# Altium schematic symbol library csy.SchLib: 117 symbols
Pins are listed as number, name and electrical type; pins without a type are passive.

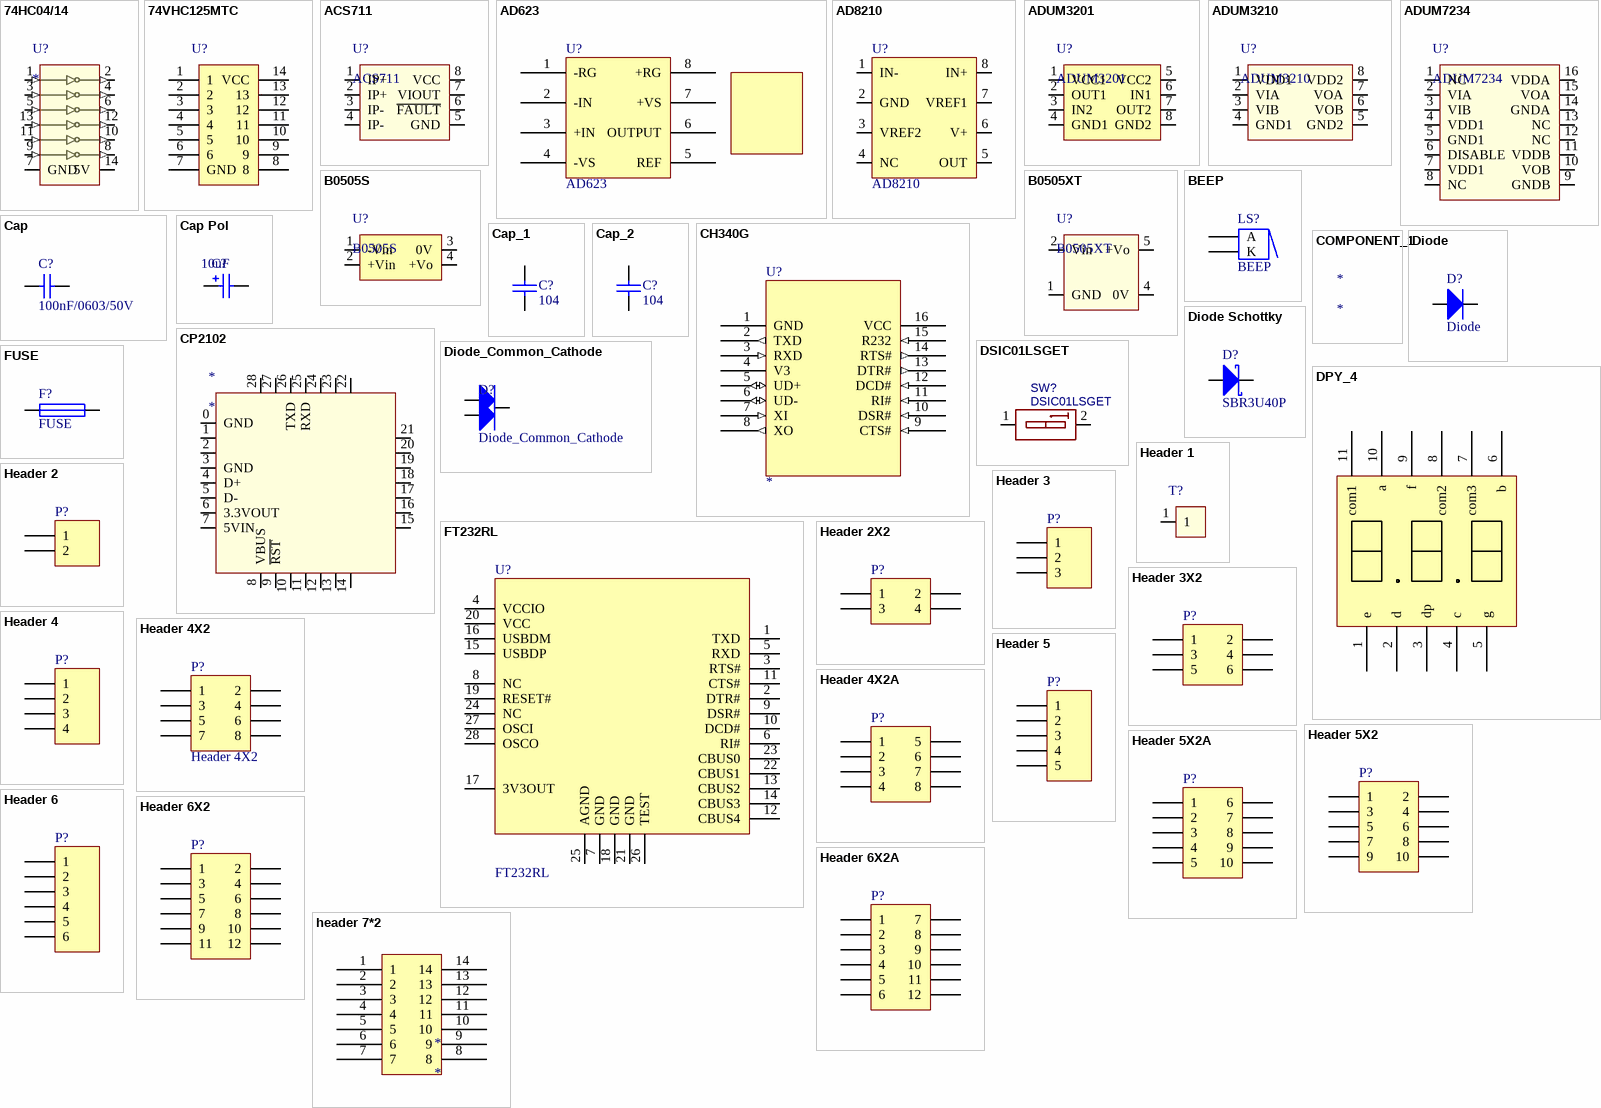
[diagram p0: symbols 74HC04/14 to header 7*2]

## 74HC04/14
designator U?
pins: 1 (in), 2 (out), 3 (in), 4 (out), 5 (in), 6 (out), 7 GND (power), 8 (out), 9 (in), 10 (out), 11 (in), 12 (out), 13 (in), 14 5V (power)

## 74VHC125MTC
designator U?
pins: 1, 2, 3, 4, 5, 6, 7 GND, 8, 9, 10, 11, 12, 13, 14 VCC

## ACS711
designator U?
footprint SOP_8
pins: 1 IP+ (hiz), 2 IP+ (hiz), 3 IP- (hiz), 4 IP- (hiz), 5 GND (power), 6 ~{FAULT} (hiz), 7 VIOUT (hiz), 8 VCC (hiz)

## AD623
designator U?
Instrumentation Amplifier
footprint SOP_8
pins: 1 -RG, 2 -IN, 3 +IN, 4 -VS, 5 REF, 6 OUTPUT, 7 +VS, 8 +RG

## AD8210
designator U?
Current shunt Monitor
footprint SOP_8
pins: 1 IN-, 2 GND, 3 VREF2, 4 NC, 5 OUT, 6 V+, 7 VREF1, 8 IN+

## ADUM3201
designator U?
footprint SOP_8
pins: 1 VCC1, 2 OUT1, 3 IN2, 4 GND1, 5 VCC2, 6 IN1, 7 OUT2, 8 GND2

## ADUM3210
designator U?
footprint SOIC_8
pins: 1 VDD1 (hiz), 2 VIA (hiz), 3 VIB (hiz), 4 GND1 (hiz), 5 GND2 (hiz), 6 VOB (hiz), 7 VOA (hiz), 8 VDD2 (hiz)

## ADUM7234
designator U?
footprint SOIC_16
pins: 1 NC (oc), 2 VIA (oc), 3 VIB (oc), 4 VDD1 (oc), 5 GND1 (oc), 6 DISABLE (oc), 7 VDD1 (oc), 8 NC (oc), 9 GNDB (oc), 10 VOB (oc), 11 VDDB (oc), 12 NC (oc), 13 NC (oc), 14 GNDA (oc), 15 VOA (oc), 16 VDDA (oc)

## B0505S
designator U?
footprint B0505S
pins: 1 -Vin, 2 +Vin, 3 0V, 4 +Vo

## B0505XT
designator U?
footprint B0505XT
pins: 1  GND (hiz), 2 Vin (hiz), 4 0V (hiz), 5 +Vo (hiz)

## BEEP
designator LS?
Magnetic Transducer Buzzer; Published: 24-Mar-1999; LatestRevisionDate: 17-Dec-2003; LatestRevisionNote: Schematic revised, PCB Footprint replaced.; DatasheetVersion: 17-Dec-2003; PackageReference: ABSM-1574; Publisher: Altium Limited; PackageDescription: Magnetic Transducer Buzzer; ComponentLink1Description: Manufacturer Link; ComponentLink1URL: http://www.megastar.com/linecard/buzzmode/index.php
footprint BP_9055
footprint BP_12095
pins: 1 A, 2 K
1 alternate drawing of the same symbol

## Cap
designator C?, comment 100nF/0603/50V
Capacitor; Published: 8-Jun-2000; LatestRevisionDate: 17-Jul-2002; LatestRevisionNote: Re-released for DXP Platform.; PackageReference: RAD-0.3; Publisher: Altium Limited; PackageDescription: Radial Cap, Thru-Hole; 2 Leads; 0.3 in Pin Spacing
simulation model CAP (Capacitor)
signal-integrity model Cap
footprint C_0805
footprint C_0402 (1005)
footprint C_0603 (1608)
footprint C_1206 (3216)
footprint C_1210
pins: 1, 2

## Cap Pol
designator C?, comment 10uF
Polarized Capacitor (Radial); Published: 8-Jun-2000; LatestRevisionDate: 17-Jul-2002; LatestRevisionNote: Re-released for DXP Platform.; PackageReference: RB7.6-15; Publisher: Altium Limited
simulation model CAP (Capacitor)
signal-integrity model Cap Pol
footprint C_A3216
footprint C_B3528 (B型)
footprint C_C6032
footprint C_D7343 (D型)
footprint C_V7361 (D型)
footprint CAP_1016 (RB.2/.4)
footprint CAP_0812
pins: 1 A, 2 K
1 alternate drawing of the same symbol

## Cap_1
designator C?, comment 104
Capacitor; Published: 8-Jun-2000; LatestRevisionDate: 17-Jul-2002; LatestRevisionNote: Re-released for DXP Platform.; PackageReference: RAD-0.3; Publisher: Altium Limited; PackageDescription: Radial Cap, Thru-Hole; 2 Leads; 0.3 in Pin Spacing
simulation model CAP (Capacitor)
signal-integrity model Cap
footprint C_0805
footprint C_0402 (1005)
footprint C_0603 (1608)
footprint C_1206 (3216)
footprint C_1210
pins: 1, 2

## Cap_2
designator C?, comment 104
Capacitor; Published: 8-Jun-2000; LatestRevisionDate: 17-Jul-2002; LatestRevisionNote: Re-released for DXP Platform.; PackageReference: RAD-0.3; Publisher: Altium Limited; PackageDescription: Radial Cap, Thru-Hole; 2 Leads; 0.3 in Pin Spacing
simulation model CAP (Capacitor)
signal-integrity model Cap
footprint C_0805
footprint C_0402 (1005)
footprint C_0603 (1608)
footprint C_1206 (3216)
footprint C_1210
pins: 1, 2

## CH340G
designator U?
USB to TTL Serial / UART
footprint SOP16
pins: 1 GND (power), 2 TXD (out), 3 RXD (in), 4 V3 (power), 5 UD+ (io), 6 UD- (io), 7 XI (in), 8 XO (out), 9 CTS# (in), 10 DSR# (in), 11 RI# (in), 12 DCD# (in), 13 DTR# (out), 14 RTS# (out), 15 R232 (in), 16 VCC (power)

## COMPONENT_1
designator *

## CP2102
designator *
footprint QFN_28 (CP2102_GMR)
pins: 0 GND, 1 (oc), 2 (oc), 3 GND (oc), 4 D+ (oc), 5 D- (oc), 6 3.3VOUT (oc), 7 5VIN (oc), 8 VBUS (oc), 9 ~{RST} (oc), 10 (oc), 11 (oc), 12 (oc), 13 (oc), 14 (oc), 15 (oc), 16 (oc), 17 (oc), 18 (oc), 19 (oc), 20 (oc), 21 (oc), 22 (oc), 23 (oc), 24 (oc), 25 RXD (oc), 26 TXD (oc), 27 (oc), 28 (oc)

## Diode
designator D?
Default Diode; Published: 8-Jun-2000; LatestRevisionDate: 17-Jul-2002; LatestRevisionNote: Re-released for DXP Platform.; PackageVersion: Sep-1996; PackageReference: SMC; Publisher: Altium Limited; PackageDescription: DO-214-AB/SMC; 2 C-Bend Leads; Body 7.9 x 5.9 mm, inc. leads (LxW); Code_JEDEC: DO-214-AB
signal-integrity model Diode
footprint D_SOD_523 (0603大小，二极管)
footprint D_DO_214AA/SMB (2816   7mmX4mm二极管)
footprint D_DO_214AB/SMC (3826   9.5mmX6.5mm二极管)
footprint D_DO_214AC/SMA (2812   7mmX3mm二极管)
footprint D_POWERDI123
footprint D_SOD_123 (1206大小，二极管)
footprint D_SOD_323 (0805[2012]大小，二极管)
pins: 1 A, 2 K

## Diode Schottky
designator D?, comment SBR3U40P
Schottky Diode; Published: 8-Jun-2000; LatestRevisionDate: 17-Jul-2002; LatestRevisionNote: Re-released for DXP Platform.; PackageReference: SMB; Publisher: Altium Limited; PackageDescription: DO-214-AA/SMB; 2 C-Bend Leads; Body 5.3 x 3.6 mm, inc. leads (LxW); Code_JEDEC: DO-214-AA
simulation model SKYDIODE (Diode)
signal-integrity model D Schottky
footprint D_DO_214AA/SMB (2816   7mmX4mm二极管)
footprint D_DO_214AB/SMC (3826   9.5mmX6.5mm二极管)
footprint D_DO_214AC/SMA (2812   7mmX3mm二极管)
footprint D_SOD_123 (1206大小，二极管)
footprint D_SOD_323 (0805[2012]大小，二极管)
footprint D_SOD_523 (0603大小，二极管)
footprint D_POWERDI123
pins: 1 A, 2 K

## Diode_Common_Cathode
designator D?
Common_Diode; Published: 8-Jun-2000; LatestRevisionDate: 17-Jul-2002; LatestRevisionNote: Re-released for DXP Platform.; PackageVersion: Sep-1996; PackageReference: SMC; Publisher: Altium Limited; PackageDescription: DO-214-AB/SMC; 2 C-Bend Leads; Body 7.9 x 5.9 mm, inc. leads (LxW); Code_JEDEC: DO-214-AB
signal-integrity model Diode
footprint D_共阴
pins: 1 A, 2 A, 3 K

## DPY_4
designator *
footprint 3361AS
pins: 1 e, 2 d, 3 dp, 4 c, 5 g, 6 b, 7 com3, 8 com2, 9 f, 10 a, 11 com1

## DSIC01LSGET
designator SW?
BOM_Manufacturer: KE; BOM_Supplier: LCSC; BOM_Manufacturer Part: DSIC01LSGET; image: //image.lceda.cn/szlcsc/C54948.jpg; BOM_Supplier Part: C54948; spicePre: S; spiceSymbolName: DSIC01LSGET
footprint SW-SMD_DSIC01LSGET
pins: 1 A1, 2 A2

## FT232RL
designator U?
FT232RL usb转串口模块
footprint SSOP_28
pins: 1 TXD, 2 DTR#, 3 RTS#, 4 VCCIO, 5 RXD, 6 RI#, 7 GND, 8 NC, 9 DSR#, 10 DCD#, 11 CTS#, 12 CBUS4, 13 CBUS2, 14 CBUS3, 15 USBDP, 16 USBDM, 17 3V3OUT, 18 GND, 19 RESET#, 20 VCC, 21 GND, 22 CBUS1, 23 CBUS0, 24 NC, 25 AGND, 26 TEST, 27 OSCI, 28 OSCO

## FUSE
designator F?
Published: 8-Jun-2000; LatestRevisionDate: 17-Jul-2002; LatestRevisionNote: Re-released for DXP Platform.; PackageReference: PIN-W2/E2.8; Publisher: Altium Limited; PackageDescription: Thru-Hole; 2 Leads
simulation model FUSE (Spice Subcircuit)
footprint FUSE
footprint fuse_box
pins: 1, 2

## Header 1
designator T?, comment TEST  (value not drawn)
footprint HDR_SIP_2.54_1P (Connector; Header; 2 Position)
pins: 1 (hiz)

## Header 2
designator P?
Header, 2-Pin; LatestRevisionDate: 17-Jul-2002; LatestRevisionNote: Re-released for DXP Platform.; Publisher: Altium Limited
signal-integrity model Connector
footprint HDR_2EDG_3.81_2P
footprint HDR_2EDG_5.08_2P
footprint HDR_SIP_2.54_2P (Connector; Header; 2 Position)
footprint HDR_2510_2.54_2P
footprint HDR_XH2.54_2P
pins: 1, 2

## Header 2X2
designator P?
Header, 2-Pin, Dual row; LatestRevisionDate: 17-Jul-2002; LatestRevisionNote: Re-released for DXP Platform.; Publisher: Altium Limited
signal-integrity model Connector
footprint HDR_DIP_2.54_4P (Connector; Header; 2x2 Position)
pins: 1, 2, 3, 4

## Header 3
designator P?
Header, 3-Pin; LatestRevisionDate: 17-Jul-2002; LatestRevisionNote: Re-released for DXP Platform.; Publisher: Altium Limited
signal-integrity model Connector
footprint HDR_SIP_2.54_3P (Connector; Header; 3 Position)
footprint HDR_XH2.54_3P
footprint HDR_2510_2.54_3P
pins: 1, 2, 3

## Header 3X2
designator P?
Header, 3-Pin, Dual row; LatestRevisionDate: 17-Jul-2002; LatestRevisionNote: Re-released for DXP Platform.; Publisher: Altium Limited
signal-integrity model Connector
footprint HDR_DIP_2.54_6P (Connector; Header; 3x2 Position)
pins: 1, 2, 3, 4, 5, 6

## Header 4
designator P?
Header, 4-Pin; LatestRevisionDate: 17-Jul-2002; LatestRevisionNote: Re-released for DXP Platform.; Publisher: Altium Limited
signal-integrity model Connector
footprint HDR_2EDG_3.81_4P
footprint HDR_SIP_2.54_4P (Connector; Header; 4 Position)
footprint HDR_2510_2.54_4P
footprint HDR_XH2.54_4P
footprint HDR_1.25_4P_立式
footprint HDR_1.25_4P_立贴
footprint HDR_1.25_4P_卧贴
pins: 1, 2, 3, 4

## Header 4X2
designator P?
Header, 4-Pin, Dual row; LatestRevisionDate: 17-Jul-2002; LatestRevisionNote: Re-released for DXP Platform.; Publisher: Altium Limited
signal-integrity model Connector
footprint HDR_DIP_2.54_8P (Connector; Header; 4x2 Position)
pins: 1, 2, 3, 4, 5, 6, 7, 8

## Header 4X2A
designator P?
Header, 4-Pin, Dual row; LatestRevisionDate: 17-Jul-2002; LatestRevisionNote: Re-released for DXP Platform.; Publisher: Altium Limited
signal-integrity model Connector
footprint HDR_DIP_2.54_8P_A (Connector; Header; 4x2 Position)
pins: 1, 2, 3, 4, 5, 6, 7, 8

## Header 5
designator P?
Header, 5-Pin; LatestRevisionDate: 17-Jul-2002; LatestRevisionNote: Re-released for DXP Platform.; Publisher: Altium Limited
signal-integrity model Connector
footprint HDR_2510_2.54_5P
footprint HDR_XH2.54_5P
footprint HDR_SIP_2.54_5P (Connector; Header; 5 Position)
pins: 1, 2, 3, 4, 5

## Header 5X2
designator P?
Header, 5-Pin, Dual row; LatestRevisionDate: 17-Jul-2002; LatestRevisionNote: Re-released for DXP Platform.; Publisher: Altium Limited
footprint HDR_DIP_2.54_10P (Connector; Header; 5x2 Position)
footprint HDR_DIP_2.54_10P_A (Connector; Header; 5x2 Position)
pins: 1, 2, 3, 4, 5, 6, 7, 8, 9, 10

## Header 5X2A
designator P?
Header, 5-Pin, Dual row; LatestRevisionDate: 17-Jul-2002; LatestRevisionNote: Re-released for DXP Platform.; Publisher: Altium Limited
signal-integrity model Connector
pins: 1, 2, 3, 4, 5, 6, 7, 8, 9, 10

## Header 6
designator P?
Header, 6-Pin; LatestRevisionDate: 17-Jul-2002; LatestRevisionNote: Re-released for DXP Platform.; Publisher: Altium Limited
signal-integrity model Connector
pins: 1, 2, 3, 4, 5, 6

## Header 6X2
designator P?
Header, 6-Pin, Dual row; LatestRevisionDate: 17-Jul-2002; LatestRevisionNote: Re-released for DXP Platform.; Publisher: Altium Limited
signal-integrity model Connector
pins: 1, 2, 3, 4, 5, 6, 7, 8, 9, 10, 11, 12

## Header 6X2A
designator P?
Header, 6-Pin, Dual row; LatestRevisionDate: 17-Jul-2002; LatestRevisionNote: Re-released for DXP Platform.; Publisher: Altium Limited
signal-integrity model Connector
pins: 1, 2, 3, 4, 5, 6, 7, 8, 9, 10, 11, 12

## header 7*2
designator *
pins: 1, 2, 3, 4, 5, 6, 7, 8, 9, 10, 11, 12, 13, 14

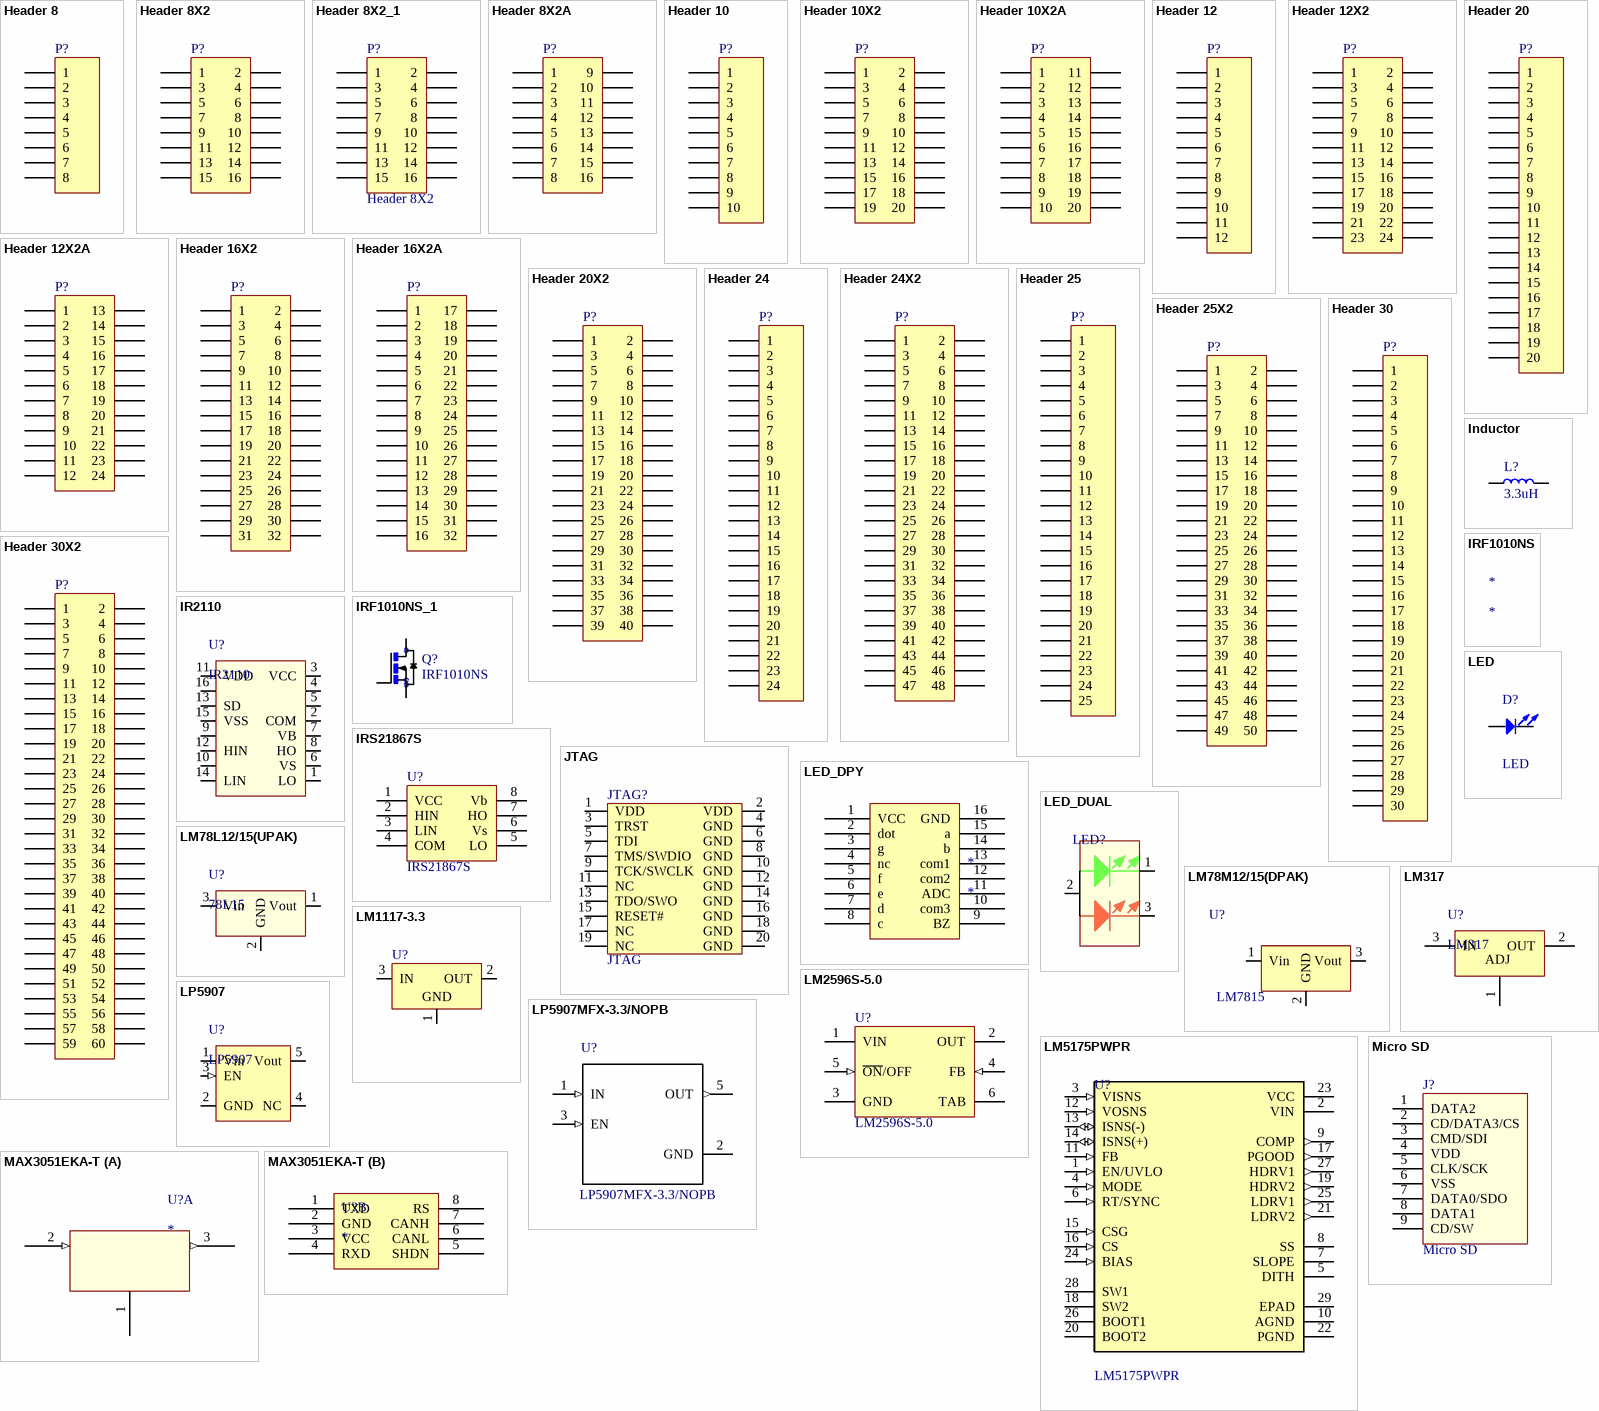
[diagram p1: symbols Header 8 to Micro SD]

## Header 8
designator P?
Header, 8-Pin; LatestRevisionDate: 17-Jul-2002; LatestRevisionNote: Re-released for DXP Platform.; Publisher: Altium Limited
signal-integrity model Connector
footprint HDR_SIP_2.54_8P (Connector; Header; 8 Position)
footprint HDR_1.25_8P_卧贴
pins: 1, 2, 3, 4, 5, 6, 7, 8

## Header 8X2
designator P?
Header, 8-Pin, Dual row; LatestRevisionDate: 17-Jul-2002; LatestRevisionNote: Re-released for DXP Platform.; Publisher: Altium Limited
signal-integrity model Connector
pins: 1, 2, 3, 4, 5, 6, 7, 8, 9, 10, 11, 12, 13, 14, 15, 16

## Header 8X2_1
designator P?, comment Header 8X2
Header, 8-Pin, Dual row; LatestRevisionDate: 17-Jul-2002; LatestRevisionNote: Re-released for DXP Platform.; Publisher: Altium Limited
footprint HDR2X8 (Connector; Header; 8x2 Position)
signal-integrity model Connector
pins: 1, 2, 3, 4, 5, 6, 7, 8, 9, 10, 11, 12, 13, 14, 15, 16

## Header 8X2A
designator P?
Header, 8-Pin, Dual row; LatestRevisionDate: 17-Jul-2002; LatestRevisionNote: Re-released for DXP Platform.; Publisher: Altium Limited
signal-integrity model Connector
pins: 1, 2, 3, 4, 5, 6, 7, 8, 9, 10, 11, 12, 13, 14, 15, 16

## Header 10
designator P?
Header, 10-Pin; LatestRevisionDate: 17-Jul-2002; LatestRevisionNote: Re-released for DXP Platform.; Publisher: Altium Limited
signal-integrity model Connector
pins: 1, 2, 3, 4, 5, 6, 7, 8, 9, 10

## Header 10X2
designator P?
Header, 10-Pin, Dual row; LatestRevisionDate: 17-Jul-2002; LatestRevisionNote: Re-released for DXP Platform.; Publisher: Altium Limited
signal-integrity model Connector
pins: 1, 2, 3, 4, 5, 6, 7, 8, 9, 10, 11, 12, 13, 14, 15, 16, 17, 18, 19, 20

## Header 10X2A
designator P?
Header, 10-Pin, Dual row; LatestRevisionDate: 17-Jul-2002; LatestRevisionNote: Re-released for DXP Platform.; Publisher: Altium Limited
signal-integrity model Connector
pins: 1, 2, 3, 4, 5, 6, 7, 8, 9, 10, 11, 12, 13, 14, 15, 16, 17, 18, 19, 20

## Header 12
designator P?
Header, 12-Pin; LatestRevisionDate: 17-Jul-2002; LatestRevisionNote: Re-released for DXP Platform.; Publisher: Altium Limited
signal-integrity model Connector
pins: 1, 2, 3, 4, 5, 6, 7, 8, 9, 10, 11, 12

## Header 12X2
designator P?
Header, 12-Pin, Dual row; LatestRevisionDate: 17-Jul-2002; LatestRevisionNote: Re-released for DXP Platform.; Publisher: Altium Limited
signal-integrity model Connector
pins: 1, 2, 3, 4, 5, 6, 7, 8, 9, 10, 11, 12, 13, 14, 15, 16, 17, 18, 19, 20, 21, 22, 23, 24

## Header 12X2A
designator P?
Header, 12-Pin, Dual row; LatestRevisionDate: 17-Jul-2002; LatestRevisionNote: Re-released for DXP Platform.; Publisher: Altium Limited
footprint HDR2X12_CEN (Connector; Header; 12x2 Position)
signal-integrity model Connector
pins: 1, 2, 3, 4, 5, 6, 7, 8, 9, 10, 11, 12, 13, 14, 15, 16, 17, 18, 19, 20, 21, 22, 23, 24

## Header 16X2
designator P?
Header, 16-Pin, Dual row; LatestRevisionDate: 17-Jul-2002; LatestRevisionNote: Re-released for DXP Platform.; Publisher: Altium Limited
signal-integrity model Connector
pins: 1, 2, 3, 4, 5, 6, 7, 8, 9, 10, 11, 12, 13, 14, 15, 16, 17, 18, 19, 20, 21, 22, 23, 24, 25, 26, 27, 28, 29, 30, 31, 32

## Header 16X2A
designator P?
Header, 16-Pin, Dual row; LatestRevisionDate: 17-Jul-2002; LatestRevisionNote: Re-released for DXP Platform.; Publisher: Altium Limited
signal-integrity model Connector
pins: 1, 2, 3, 4, 5, 6, 7, 8, 9, 10, 11, 12, 13, 14, 15, 16, 17, 18, 19, 20, 21, 22, 23, 24, 25, 26, 27, 28, 29, 30, 31, 32

## Header 20
designator P?
Header, 20-Pin; LatestRevisionDate: 17-Jul-2002; LatestRevisionNote: Re-released for DXP Platform.; Publisher: Altium Limited
signal-integrity model Connector
pins: 1, 2, 3, 4, 5, 6, 7, 8, 9, 10, 11, 12, 13, 14, 15, 16, 17, 18, 19, 20

## Header 20X2
designator P?
Header, 20-Pin, Dual row; LatestRevisionDate: 17-Jul-2002; LatestRevisionNote: Re-released for DXP Platform.; Publisher: Altium Limited
signal-integrity model Connector
pins: 1, 2, 3, 4, 5, 6, 7, 8, 9, 10, 11, 12, 13, 14, 15, 16, 17, 18, 19, 20, 21, 22, 23, 24, 25, 26, 27, 28, 29, 30, 31, 32, 33, 34, 35, 36, 37, 38, 39, 40

## Header 24
designator P?
Header, 24-Pin; LatestRevisionDate: 17-Jul-2002; LatestRevisionNote: Re-released for DXP Platform.; Publisher: Altium Limited
signal-integrity model Connector
pins: 1, 2, 3, 4, 5, 6, 7, 8, 9, 10, 11, 12, 13, 14, 15, 16, 17, 18, 19, 20, 21, 22, 23, 24

## Header 24X2
designator P?
Header, 24-Pin, Dual row; LatestRevisionDate: 17-Jul-2002; LatestRevisionNote: Re-released for DXP Platform.; Publisher: Altium Limited
signal-integrity model Connector
pins: 1, 2, 3, 4, 5, 6, 7, 8, 9, 10, 11, 12, 13, 14, 15, 16, 17, 18, 19, 20, 21, 22, 23, 24, 25, 26, 27, 28, 29, 30, 31, 32, 33, 34, 35, 36, 37, 38, 39, 40, 41, 42, 43, 44, 45, 46, 47, 48

## Header 25
designator P?
Header, 25-Pin; LatestRevisionDate: 17-Jul-2002; LatestRevisionNote: Re-released for DXP Platform.; Publisher: Altium Limited
signal-integrity model Connector
pins: 1, 2, 3, 4, 5, 6, 7, 8, 9, 10, 11, 12, 13, 14, 15, 16, 17, 18, 19, 20, 21, 22, 23, 24, 25

## Header 25X2
designator P?
Header, 25-Pin, Dual row; LatestRevisionDate: 17-Jul-2002; LatestRevisionNote: Re-released for DXP Platform.; Publisher: Altium Limited
signal-integrity model Connector
pins: 1, 2, 3, 4, 5, 6, 7, 8, 9, 10, 11, 12, 13, 14, 15, 16, 17, 18, 19, 20, 21, 22, 23, 24, 25, 26, 27, 28, 29, 30, 31, 32, 33, 34, 35, 36, 37, 38, 39, 40, 41, 42, 43, 44, 45, 46, 47, 48, 49, 50

## Header 30
designator P?
Header, 30-Pin; LatestRevisionDate: 17-Jul-2002; LatestRevisionNote: Re-released for DXP Platform.; Publisher: Altium Limited
signal-integrity model Connector
pins: 1, 2, 3, 4, 5, 6, 7, 8, 9, 10, 11, 12, 13, 14, 15, 16, 17, 18, 19, 20, 21, 22, 23, 24, 25, 26, 27, 28, 29, 30

## Header 30X2
designator P?
Header, 30-Pin, Dual row; LatestRevisionDate: 17-Jul-2002; LatestRevisionNote: Re-released for DXP Platform.; Publisher: Altium Limited
signal-integrity model Connector
pins: 1, 2, 3, 4, 5, 6, 7, 8, 9, 10, 11, 12, 13, 14, 15, 16, 17, 18, 19, 20, 21, 22, 23, 24, 25, 26, 27, 28, 29, 30, 31, 32, 33, 34, 35, 36, 37, 38, 39, 40, 41, 42, 43, 44, 45, 46, 47, 48, 49, 50, 51, 52, 53, 54, 55, 56, 57, 58, 59, 60

## Inductor
designator L?, comment 3.3uH
Inductor; Code_IEC: 1005; Published: 8-Jun-2000; LatestRevisionDate: 17-Jul-2002; LatestRevisionNote: Re-released for DXP Platform.; PackageReference: 0402-A; Publisher: Altium Limited; Code_JEITA: 0402
simulation model INDUCTOR (Inductor)
signal-integrity model Inductor
footprint L_0402
footprint L_0603
footprint L_0805 (1/8W)
footprint L_1210
footprint L_1808
footprint L_1812
footprint L_2220
footprint L_2525
footprint L_SLF10XX
footprint L_SLF04XX
footprint L_SLF06XX
footprint L_SLF07XX
footprint L_SLF0303
pins: 1 (power), 2 (power)

## IR2110
designator U?
footprint SOIC_16(Wide Body)
pins: 1 LO, 2 COM, 3 VCC (power), 4, 5, 6 VS, 7 VB, 8 HO, 9, 10, 11 VDD, 12 HIN, 13 SD, 14 LIN, 15 VSS, 16

## IRF1010NS
designator *

## IRF1010NS_1
designator Q?, comment IRF1010NS
55V Single N-Channel HEXFET Power MOSFET in a D2-Pak package; MF: International Rectifier; Price: None; SnapEDA_Link: https://www.snapeda.com/parts/IRF1010NS/International%20Rectifier/view-part/?ref=snap; Availability: Unavailable; MP: IRF1010NS; Package: D2PAK International Rectifier; Value: *
footprint D2PACK
pins: 1 G, 2 D, 3 S

## IRS21867S
designator U?
footprint SOP_8
pins: 1 VCC, 2 HIN, 3 LIN, 4 COM, 5 LO, 6 Vs, 7 HO, 8 Vb

## JTAG
designator JTAG?
footprint HDR_DC3_2.54_20P
pins: 1 VDD, 2 VDD, 3 TRST, 4 GND, 5 TDI, 6 GND, 7 TMS/SWDIO, 8 GND, 9 TCK/SWCLK, 10 GND, 11 NC, 12 GND, 13 TDO/SWO, 14 GND, 15 RESET#, 16 GND, 17 NC, 18 GND, 19 NC, 20 GND

## LED
designator D?
Typical INFRARED GaAs LED; Published: 8-Jun-2000; LatestRevisionDate: 08-Jul-2005; LatestRevisionNote: Mech Layer 1 removed.; PackageReference: LED-0; Publisher: Altium Limited; PackageDescription: LED; 2 Leads
simulation model LED0 (Diode)
footprint D_SOD_123 (1206大小，二极管)
footprint D_SOD_323 (0805[2012]大小，二极管)
footprint D_SOD_523 (0603大小，二极管)
pins: 1 A, 2 K

## LED_DPY
designator *
pins: 1 VCC, 2 dot, 3 g, 4 nc, 5 f, 6 e, 7 d, 8 c, 9 BZ, 10 com3, 11 ADC, 12 com2, 13 com1, 14 b, 15 a, 16 GND

## LED_DUAL
designator LED?, comment LED  (value not drawn)
footprint HDR_SIP_2.54_3P (Connector; Header; 3 Position)
pins: 1  1 (power), 2 (power), 3 (power)

## LM78L12/15(UPAK)
designator U?, comment 78L15
footprint SOT_89/UPAK
pins: 1 Vout (hiz), 2 GND (hiz), 3 Vin (hiz)

## LM78M12/15(DPAK)
designator U?, comment LM7815
footprint TO_252/DPAK
pins: 1 Vin, 2 GND, 3 Vout

## LM317
designator U?
footprint SOT_223
pins: 1 ADJ (power), 2 OUT (power), 3 IN (power)

## LM1117-3.3
designator U?
800mA Low-Dropout Linear Regulator, 3-pin TO-220; PartNumber: LM1117T-3.3; Manufacturer: National Semiconductor; PackageTopMarking: NSUZXYTTE#*LM1117T*3.3; PowerWise: N; CompType: LDO IC; Published: 4-Dec-2008; DatasheetVersion: Apr-2006; PackageVersion: revL, Jan-1992; PackageReference: T03B; Publisher: Altium Limited; PackageDescription: TO-220, Molded, 3 Lead, Straight; Supplier 1: Farnell; Supplier Part Number 1: 9485813; RoHS: N; PinCount: 3; ComponentLink1Description: LM1117 Datasheet; ComponentLink1URL: http://www.national.com/ds/LM/LM1117.pdf; ComponentLink2Description: LM1117 Web Page; ComponentLink2URL: http://www.national.com/pf/LM/LM1117.html; ComponentLink3Description: T03B Package Page; ComponentLink3URL: http://www.national.com/packaging/folders/t03b.html
footprint SOT_223
pins: 1 GND (power), 2 OUT (power), 3 IN (power)

## LM2596S-5.0
designator U?
SIMPLE SWITCHER?Power Converter 150 KHz 3A Step-Down Voltage Regulator, 5-pin TO-263; Manufacturer: National Semiconductor; PackageTopMarking: NSUZXYTTE#*LM2596S*-5.0 P+; PowerWise: N; Published: 4-Dec-2008; DatasheetVersion: May-2002; PackageVersion: revD, Apr-2005; PackageReference: TS5B; Publisher: Altium Limited; PackageDescription: TO-263, Molded, .400 x .390 x .180in, 5 Lead, .067in Pitch, Surface Mount; Supplier 1: Farnell; Supplier Part Number 1: 1214546; PartNumber: LM2596S-5.0; RoHS: N; PinCount: 5; CompType: Switcher; Code_JEDEC: MO-169-AB; ComponentLink1Description: LM2596 Datasheet; ComponentLink1URL: http://www.national.com/ds/LM/LM2596.pdf; ComponentLink2Description: LM2596 Web Page; ComponentLink2URL: http://www.national.com/pf/LM/LM2596.html; ComponentLink3Description: TS5B Package Page; ComponentLink3URL: http://www.national.com/packaging/folders/ts5b.html
footprint TO_263_5
pins: 1 VIN (power), 2 OUT (power), 3 GND (power), 4 FB (in), 5 ~{ON}/OFF (in), 6 TAB (power)

## LM5175PWPR
designator U?
42V Wide Vin 4-Switch Synchronous Buck-Boost Controller 28-HTSSOP -40 to 125; MF: Texas Instruments; Package: TSSOP-28 Texas Instruments; Price: None; MP: LM5175PWPR; Availability: Unavailable; SnapEDA_Link: https://www.snapeda.com/parts/LM5175PWPR/Texas%20Instruments/view-part/?ref=snap; Value: *
footprint SOP65P640X120-28N
pins: 1 EN/UVLO (in), 2 VIN (power), 3 VISNS (in), 4 MODE (in), 5 DITH, 6 RT/SYNC (in), 7 SLOPE, 8 SS, 9 COMP (out), 10 AGND (power), 11 FB (in), 12 VOSNS (in), 13 ISNS(-) (io), 14 ISNS(+) (io), 15 CSG (in), 16 CS (in), 17 PGOOD (out), 18 SW2, 19 HDRV2 (out), 20 BOOT2, 21 LDRV2 (out), 22 PGND (power), 23 VCC (power), 24 BIAS (in), 25 LDRV1 (out), 26 BOOT1, 27 HDRV1 (out), 28 SW1, 29 EPAD

## LP5907
designator U?
footprint SOT_23_5
pins: 1 Vin (power), 2 GND (power), 3 EN (in), 4 NC (hiz), 5 Vout (power)

## LP5907MFX-3.3/NOPB
designator U?
250mA, Ultra-Low Noise Low-Dropout egulator 5-SOT-23 -40 to 125; MF: Texas Instruments; Price: None; MP: LP5907MFX-3.3/NOPB; SnapEDA_Link: https://www.snapeda.com/parts/LP5907MFX-3.3/NOPB/Texas%20Instruments/view-part/?ref=snap; Availability: Unavailable; Package: SOT-23 Texas Instruments; Value: *
footprint SOT95P280X145-5N
pins: 1 IN (in), 2 GND (power), 3 EN (in), 5 OUT (out)

## MAX3051EKA-T
designator U?
footprint MAX3051EKA_T (3x1.6x1.1mm(长宽高))
part A pins: 1 2, 2 0 (in), 3 1 (out)
part B pins: 1 TXD, 2 GND, 3 VCC, 4 RXD, 5 SHDN, 6 CANL, 7 CANH, 8 RS

## Micro SD
designator J?
Micro SD卡; 版权归属: 源创客; BOM名称: Micro SD卡; 学习资源: www.ooocke.com
footprint Micro SD
pins: 1 DATA2, 2 CD/DATA3/CS, 3 CMD/SDI, 4 VDD, 5 CLK/SCK, 6 VSS, 7 DATA0/SDO, 8 DATA1, 9 CD/SW

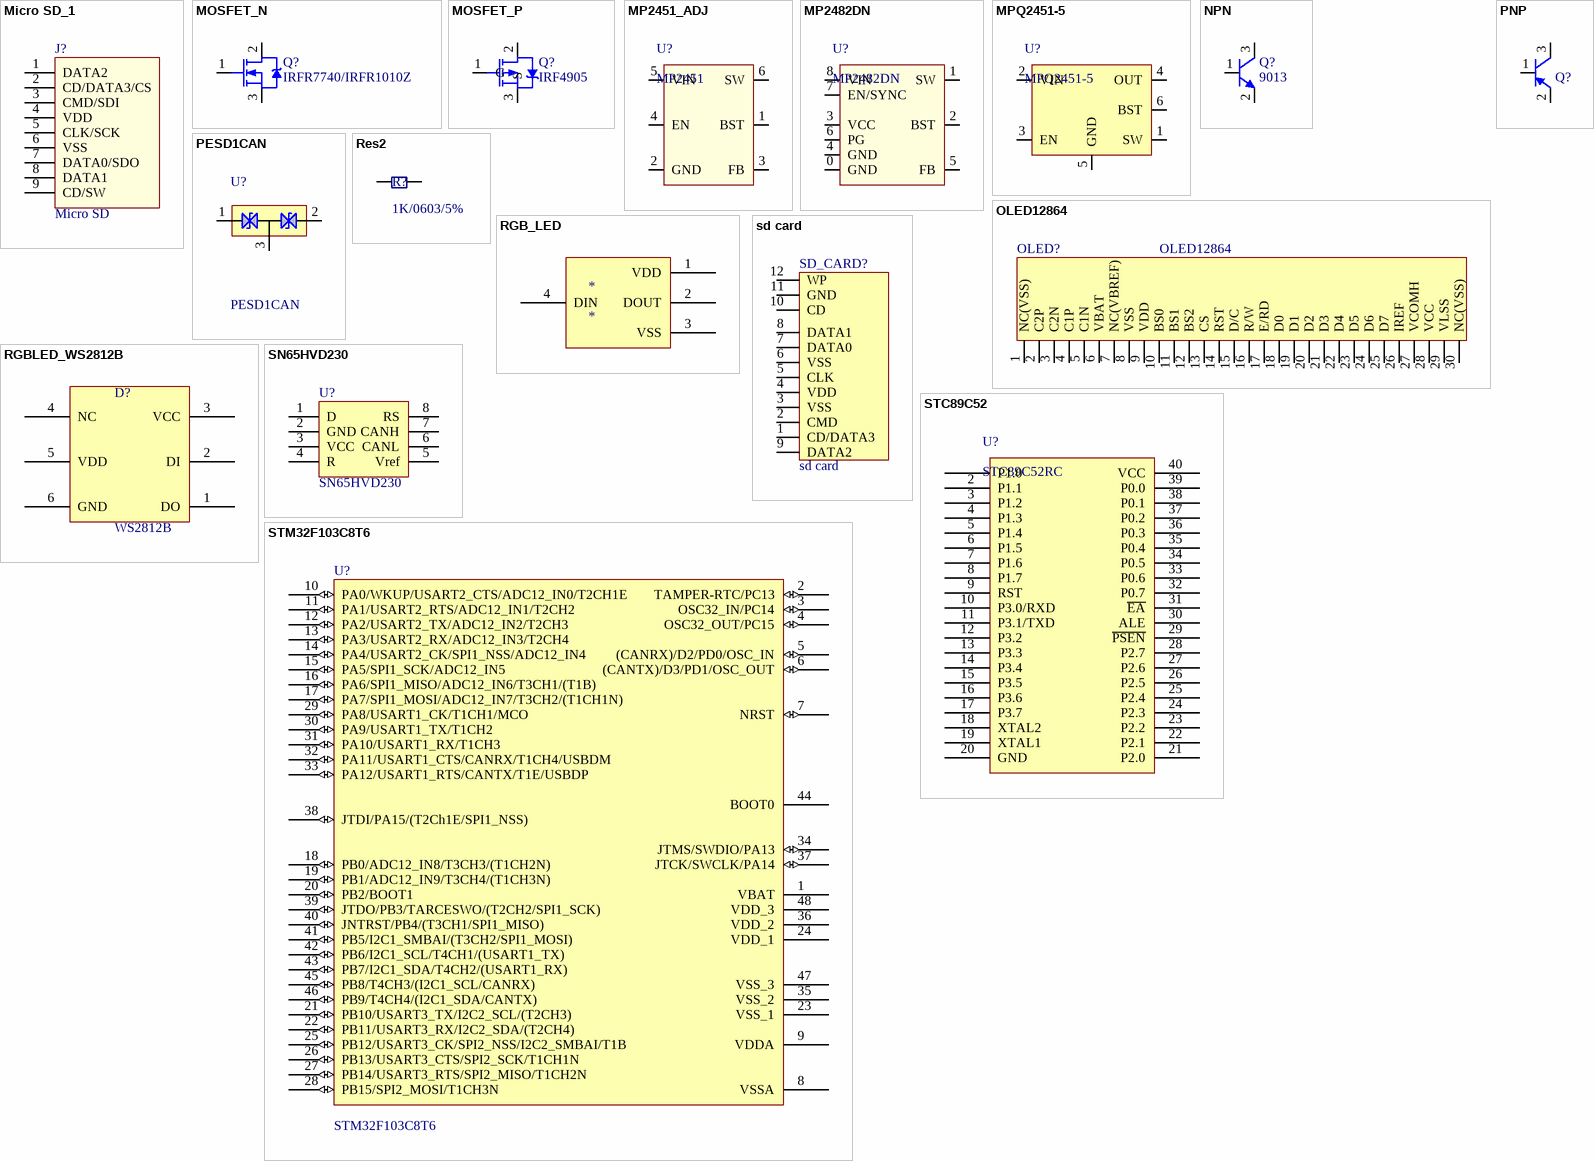
[diagram p2: symbols Micro SD_1 to STM32F103C8T6]

## Micro SD_1
designator J?, comment Micro SD
Micro SD卡; 版权归属: 源创客; BOM名称: Micro SD卡; 学习资源: www.ooocke.com
footprint Micro SD
pins: 1 DATA2, 2 CD/DATA3/CS, 3 CMD/SDI, 4 VDD, 5 CLK/SCK, 6 VSS, 7 DATA0/SDO, 8 DATA1, 9 CD/SW

## MOSFET_N
designator Q?, comment IRFR7740/IRFR1010Z
HEXFET Power MOSFET; Published: 8-Jun-2000; LatestRevisionDate: 20-Nov-2009; LatestRevisionNote: IPC-7351 Footprint Added.; DatasheetVersion: May-1999; PackageReference: D2PAK; Publisher: Altium Limited; PackageDescription: 3-Pin Transistor Outline Package 2.54 mm Pitch, 15.1 mm Lead Span; ComponentLink1Description: Manufacturer Link; ComponentLink1URL: http://www.irf.com/; ComponentLink2Description: Datasheet; ComponentLink2URL: http://www.irf.com/product-info/datasheets/data/irf1010ns.pdf
footprint TO_252/DPAK
pins: 1 G, 2 D, 3 S

## MOSFET_P
designator Q?, comment IRF4905
HEXFET Power MOSFET; Published: 8-Jun-2000; LatestRevisionDate: 20-Nov-2009; LatestRevisionNote: IPC-7351 Footprint Added.; DatasheetVersion: May-1999; PackageReference: D2PAK; Publisher: Altium Limited; PackageDescription: 3-Pin Transistor Outline Package 2.54 mm Pitch, 15.1 mm Lead Span; ComponentLink1Description: Manufacturer Link; ComponentLink1URL: http://www.irf.com/; ComponentLink2Description: Datasheet; ComponentLink2URL: http://www.irf.com/product-info/datasheets/data/irf1010ns.pdf
footprint TO220 (TO, Thru-Hole, Vertical, Heatsink Mounted; 3 In-Line Leads; Pitch 2.54 mm)
pins: 1 G, 2 D, 3 S

## MP2451_ADJ
designator U?, comment MP2451
footprint SOT_23_6 (SOT-23/SC-74A; 5 Leads; Body 3.1 x 3 mm, inc. leads (LxW max))
pins: 1 BST, 2 GND, 3 FB, 4 EN, 5 VIN (power), 6 SW

## MP2482DN
designator U?
footprint SOIC_8_PAD
pins: 0 GND (power), 1 SW, 2 BST, 3 VCC (power), 4 GND (power), 5 FB, 6 PG, 7 EN/SYNC, 8 VIN (power)

## MPQ2451-5
designator U?
footprint SOT_23_6 (SOT-23/SC-74A; 5 Leads; Body 3.1 x 3 mm, inc. leads (LxW max))
pins: 1 SW, 2 VIN, 3 EN, 4 OUT, 5 GND, 6 BST

## NPN
designator Q?, comment 9013
NPN Bipolar Transistor; Published: 8-Jun-2000; LatestRevisionDate: 17-Jul-2002; LatestRevisionNote: Re-released for DXP Platform.; PackageReference: TO-226; Publisher: Altium Limited; Code_JEDEC: TO-226-AA
simulation model NPN
signal-integrity model NPN
footprint SOT_23
pins: 1 B, 2 E, 3 C

## OLED12864
designator OLED?
footprint OLED_0.96 (128*64)
pins: 1 NC(VSS), 2 C2P, 3 C2N, 4 C1P, 5 C1N, 6 VBAT, 7 NC(VBREF), 8 VSS, 9 VDD, 10 BS0, 11 BS1, 12 BS2, 13 CS, 14 RST, 15 D/C, 16 R/W, 17 E/RD, 18 D0, 19 D1, 20 D2, 21 D3, 22 D4, 23 D5, 24 D6, 25 D7, 26 IREF, 27 VCOMH, 28 VCC, 29 VLSS, 30 NC(VSS)

## PESD1CAN
designator U?
footprint SOT_23
pins: 1 cathode 1, 2 cathode 2, 3 GND

## PNP
designator Q?
PNP Bipolar Transistor; Published: 8-Jun-2000; LatestRevisionDate: 29-May-2009; LatestRevisionNote: IPC-7351 Footprint Added.; PackageVersion: Aug-1999; PackageReference: SOT-23B; Publisher: Altium Limited; PackageDescription: 3-Pin SOT-23 Package 0.95 mm Pitch, 2.4 mm Lead Span
simulation model PNP
signal-integrity model PNP
footprint SOT_23
pins: 1 B, 2 E, 3 C

## Res2
designator R?, comment 1K/0603/5%
Resistor; Published: 8-Jun-2000; LatestRevisionDate: 17-Jul-2002; LatestRevisionNote: Re-released for DXP Platform.; PackageReference: AXIAL-0.4; Publisher: Altium Limited
simulation model RESISTOR (Resistor)
footprint R_0402 (1/16W)
footprint R_0603 (1608)
footprint R_0805 (2012)
footprint R_1206 ([3216])
footprint R_1210 (1/3W)
footprint R_1812 (4532)
footprint R_2512 (6432)
pins: 1, 2

## RGB_LED
designator *
pins: 1 VDD, 2 DOUT, 3 VSS, 4 DIN

## RGBLED_WS2812B
designator D?, comment WS2812B
WS2812B 5050 RGB LED with Integrated Driver Chip - 10 Pack; MP: ADA1655; MF: Adafruit Industries; Price: None; SnapEDA_Link: https://www.snapeda.com/parts/ADA1655/Adafruit%20Industries/view-part/?ref=snap; Availability: Unavailable; Package: 5050 Worldsemi; Value: *
footprint 5050
pins: 1 DO, 2 DI, 3 VCC, 4 NC, 5 VDD, 6 GND

## sd card
designator SD_CARD?
footprint SDCARD_S (SDCARD_SMALL)
footprint SDCARD_L
pins: 1 CD/DATA3, 2 CMD, 3 VSS, 4 VDD, 5 CLK, 6 VSS, 7 DATA0, 8 DATA1, 9 DATA2, 10 CD, 11 GND, 12 WP

## SN65HVD230
designator U?
footprint SOP_8
pins: 1 D, 2 GND, 3 VCC, 4 R, 5 Vref, 6 CANL, 7 CANH, 8 RS
2 alternate drawings of the same symbol

## STC89C52
designator U?, comment STC89C52RC
footprint DIP_40
pins: 2 P1.1, 3 P1.2, 4 P1.3, 5 P1.4, 6 P1.5, 7 P1.6, 8 P1.7, 9 RST, 10 P3.0/RXD, 11 P3.1/TXD, 12 P3.2, 13 P3.3, 14 P3.4, 15 P3.5, 16 P3.6, 17 P3.7, 18 XTAL2, 19 XTAL1, 20 GND, 21 P2.0, 22 P2.1, 23 P2.2, 24 P2.3, 25 P2.4, 26 P2.5, 27 P2.6, 28 P2.7, 29 ~{PSEN}, 30 ALE, 31 ~{EA}, 32 P0.7, 33 P0.6, 34 P0.5, 35 P0.4, 36 P0.3, 37 P0.2, 38 P0.1, 39 P0.0, 40 VCC, ?1 P1.0

## STM32F103C8T6
designator U?
footprint LQFP_48_M (Thin QFP, 48-Leads, Body 7x7mm, Pitch 0.5mm, IPC Low Density)
pins: 1 VBAT (power), 2 TAMPER-RTC/PC13 (io), 3 OSC32_IN/PC14 (io), 4 OSC32_OUT/PC15 (io), 5 (CANRX)/D2/PD0/OSC_IN (io), 6 (CANTX)/D3/PD1/OSC_OUT (io), 7 NRST (io), 8 VSSA (power), 9 VDDA (power), 10 PA0/WKUP/USART2_CTS/ADC12_IN0/T2CH1E (io), 11 PA1/USART2_RTS/ADC12_IN1/T2CH2 (io), 12 PA2/USART2_TX/ADC12_IN2/T2CH3 (io), 13 PA3/USART2_RX/ADC12_IN3/T2CH4 (io), 14 PA4/USART2_CK/SPI1_NSS/ADC12_IN4 (io), 15 PA5/SPI1_SCK/ADC12_IN5 (io), 16 PA6/SPI1_MISO/ADC12_IN6/T3CH1/(T1B) (io), 17 PA7/SPI1_MOSI/ADC12_IN7/T3CH2/(T1CH1N) (io), 18 PB0/ADC12_IN8/T3CH3/(T1CH2N) (io), 19 PB1/ADC12_IN9/T3CH4/(T1CH3N) (io), 20 PB2/BOOT1 (io), 21 PB10/USART3_TX/I2C2_SCL/(T2CH3) (io), 22 PB11/USART3_RX/I2C2_SDA/(T2CH4) (io), 23 VSS_1 (power), 24 VDD_1 (power), 25 PB12/USART3_CK/SPI2_NSS/I2C2_SMBAI/T1B (io), 26 PB13/USART3_CTS/SPI2_SCK/T1CH1N (io), 27 PB14/USART3_RTS/SPI2_MISO/T1CH2N (io), 28 PB15/SPI2_MOSI/T1CH3N (io), 29 PA8/USART1_CK/T1CH1/MCO (io), 30 PA9/USART1_TX/T1CH2 (io), 31 PA10/USART1_RX/T1CH3 (io), 32 PA11/USART1_CTS/CANRX/T1CH4/USBDM (io), 33 PA12/USART1_RTS/CANTX/T1E/USBDP (io), 34 JTMS/SWDIO/PA13 (io), 35 VSS_2 (power), 36 VDD_2 (power), 37 JTCK/SWCLK/PA14 (io), 38 JTDI/PA15/(T2Ch1E/SPI1_NSS) (io), 39 JTDO/PB3/TARCESWO/(T2CH2/SPI1_SCK) (io), 40 JNTRST/PB4/(T3CH1/SPI1_MISO) (io), 41 PB5/I2C1_SMBAI/(T3CH2/SPI1_MOSI) (io), 42 PB6/I2C1_SCL/T4CH1/(USART1_TX) (io), 43 PB7/I2C1_SDA/T4CH2/(USART1_RX) (io), 44 BOOT0, 45 PB8/T4CH3/(I2C1_SCL/CANRX) (io), 46 PB9/T4CH4/(I2C1_SDA/CANTX) (io), 47 VSS_3 (power), 48 VDD_3 (power)

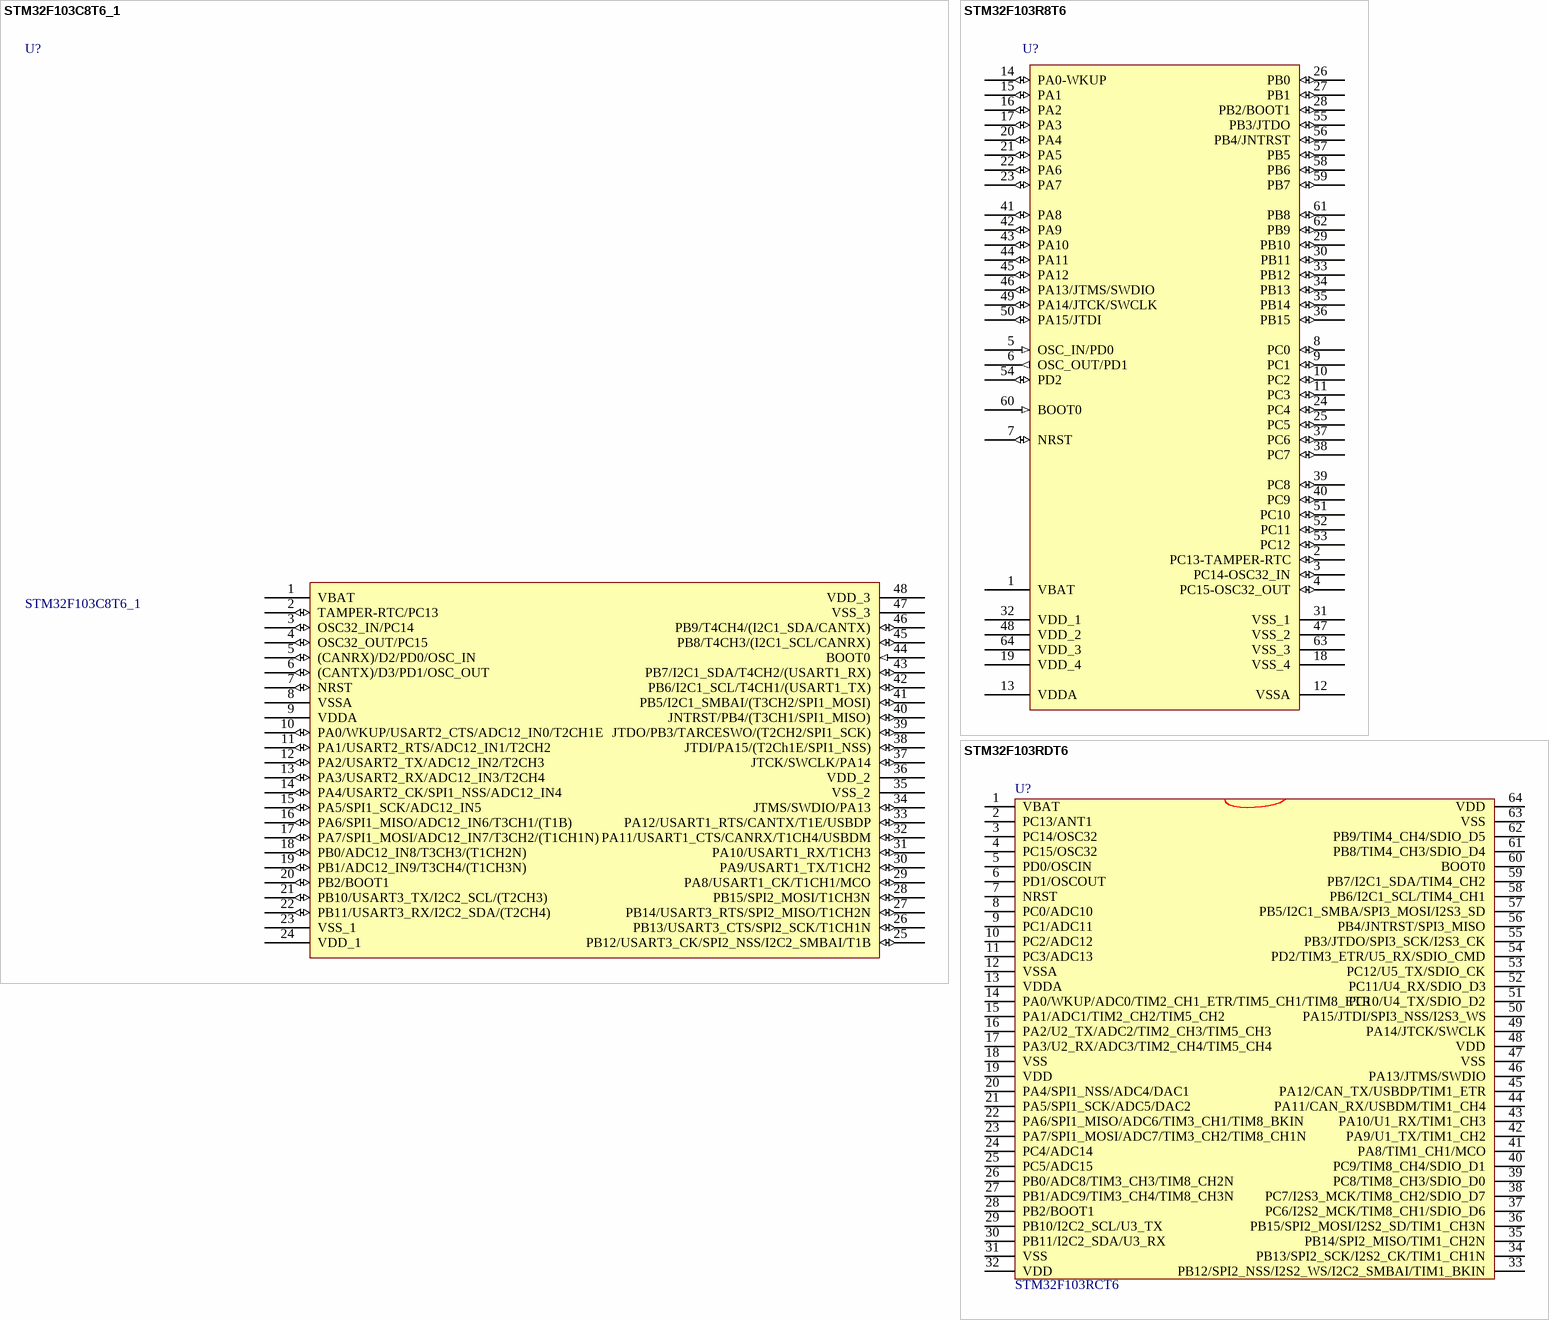
[diagram p3: symbols STM32F103C8T6_1 to STM32F103RDT6]

## STM32F103C8T6_1
designator U?
footprint LQFP_48_M (Thin QFP, 48-Leads, Body 7x7mm, Pitch 0.5mm, IPC Low Density)
pins: 1 VBAT (power), 2 TAMPER-RTC/PC13 (io), 3 OSC32_IN/PC14 (io), 4 OSC32_OUT/PC15 (io), 5 (CANRX)/D2/PD0/OSC_IN (io), 6 (CANTX)/D3/PD1/OSC_OUT (io), 7 NRST (io), 8 VSSA (power), 9 VDDA (power), 10 PA0/WKUP/USART2_CTS/ADC12_IN0/T2CH1E (io), 11 PA1/USART2_RTS/ADC12_IN1/T2CH2 (io), 12 PA2/USART2_TX/ADC12_IN2/T2CH3 (io), 13 PA3/USART2_RX/ADC12_IN3/T2CH4 (io), 14 PA4/USART2_CK/SPI1_NSS/ADC12_IN4 (io), 15 PA5/SPI1_SCK/ADC12_IN5 (io), 16 PA6/SPI1_MISO/ADC12_IN6/T3CH1/(T1B) (io), 17 PA7/SPI1_MOSI/ADC12_IN7/T3CH2/(T1CH1N) (io), 18 PB0/ADC12_IN8/T3CH3/(T1CH2N) (io), 19 PB1/ADC12_IN9/T3CH4/(T1CH3N) (io), 20 PB2/BOOT1 (io), 21 PB10/USART3_TX/I2C2_SCL/(T2CH3) (io), 22 PB11/USART3_RX/I2C2_SDA/(T2CH4) (io), 23 VSS_1 (power), 24 VDD_1 (power), 25 PB12/USART3_CK/SPI2_NSS/I2C2_SMBAI/T1B (io), 26 PB13/USART3_CTS/SPI2_SCK/T1CH1N (io), 27 PB14/USART3_RTS/SPI2_MISO/T1CH2N (io), 28 PB15/SPI2_MOSI/T1CH3N (io), 29 PA8/USART1_CK/T1CH1/MCO (io), 30 PA9/USART1_TX/T1CH2 (io), 31 PA10/USART1_RX/T1CH3 (io), 32 PA11/USART1_CTS/CANRX/T1CH4/USBDM (io), 33 PA12/USART1_RTS/CANTX/T1E/USBDP (io), 34 JTMS/SWDIO/PA13 (io), 35 VSS_2 (power), 36 VDD_2 (power), 37 JTCK/SWCLK/PA14 (io), 38 JTDI/PA15/(T2Ch1E/SPI1_NSS) (io), 39 JTDO/PB3/TARCESWO/(T2CH2/SPI1_SCK) (io), 40 JNTRST/PB4/(T3CH1/SPI1_MISO) (io), 41 PB5/I2C1_SMBAI/(T3CH2/SPI1_MOSI) (io), 42 PB6/I2C1_SCL/T4CH1/(USART1_TX) (io), 43 PB7/I2C1_SDA/T4CH2/(USART1_RX) (io), 44 BOOT0 (in), 45 PB8/T4CH3/(I2C1_SCL/CANRX) (io), 46 PB9/T4CH4/(I2C1_SDA/CANTX) (io), 47 VSS_3 (power), 48 VDD_3 (power)

## STM32F103R8T6
designator U?
STM32 ARM-based 32-bit MCU with 64 Kbytes Flash, 64-pin LQFP, Industrial Temperature; Published: 30-May-2008; DatasheetVersion: rev6, Mar-2008; PackageVersion: Mar-2008; PackageReference: LQFP64; Publisher: Altium Limited; PackageDescription: 64-Pin Low-Profile Quad Flat Pack, 10 x 10 mm Body, 0.5 mm Pitch (LQFP64); ComponentLink1Description: Manufacturer Link; ComponentLink1URL: www.st.com/stm32; ComponentLink2Description: Datasheet; ComponentLink2URL: http://www.st.com/stonline/products/literature/ds/13587.pdf
footprint LQFP_64_M (Thin QFP, 64-Leads, Body 10x10mm, Pitch 0.5mm, IPC Low Density)
pins: 1 VBAT (power), 2 PC13-TAMPER-RTC (io), 3 PC14-OSC32_IN (io), 4 PC15-OSC32_OUT (io), 5 OSC_IN/PD0 (in), 6 OSC_OUT/PD1 (out), 7 NRST (io), 8 PC0 (io), 9 PC1 (io), 10 PC2 (io), 11 PC3 (io), 12 VSSA (power), 13 VDDA (power), 14 PA0-WKUP (io), 15 PA1 (io), 16 PA2 (io), 17 PA3 (io), 18 VSS_4 (power), 19 VDD_4 (power), 20 PA4 (io), 21 PA5 (io), 22 PA6 (io), 23 PA7 (io), 24 PC4 (io), 25 PC5 (io), 26 PB0 (io), 27 PB1 (io), 28 PB2/BOOT1 (io), 29 PB10 (io), 30 PB11 (io), 31 VSS_1 (power), 32 VDD_1 (power), 33 PB12 (io), 34 PB13 (io), 35 PB14 (io), 36 PB15 (io), 37 PC6 (io), 38 PC7 (io), 39 PC8 (io), 40 PC9 (io), 41 PA8 (io), 42 PA9 (io), 43 PA10 (io), 44 PA11 (io), 45 PA12 (io), 46 PA13/JTMS/SWDIO (io), 47 VSS_2 (power), 48 VDD_2 (power), 49 PA14/JTCK/SWCLK (io), 50 PA15/JTDI (io), 51 PC10 (io), 52 PC11 (io), 53 PC12 (io), 54 PD2 (io), 55 PB3/JTDO (io), 56 PB4/JNTRST (io), 57 PB5 (io), 58 PB6 (io), 59 PB7 (io), 60 BOOT0 (in), 61 PB8 (io), 62 PB9 (io), 63 VSS_3 (power), 64 VDD_3 (power)

## STM32F103RDT6
designator U?, comment STM32F103RCT6
footprint LQFP_64_M (Thin QFP, 64-Leads, Body 10x10mm, Pitch 0.5mm, IPC Low Density)
pins: 1 VBAT, 2 PC13/ANT1, 3 PC14/OSC32, 4 PC15/OSC32, 5 PD0/OSCIN, 6 PD1/OSCOUT, 7 NRST, 8 PC0/ADC10, 9 PC1/ADC11, 10 PC2/ADC12, 11 PC3/ADC13, 12 VSSA, 13 VDDA, 14 PA0/WKUP/ADC0/TIM2_CH1_ETR/TIM5_CH1/TIM8_ETR, 15 PA1/ADC1/TIM2_CH2/TIM5_CH2, 16 PA2/U2_TX/ADC2/TIM2_CH3/TIM5_CH3, 17 PA3/U2_RX/ADC3/TIM2_CH4/TIM5_CH4, 18 VSS, 19 VDD, 20 PA4/SPI1_NSS/ADC4/DAC1, 21 PA5/SPI1_SCK/ADC5/DAC2, 22 PA6/SPI1_MISO/ADC6/TIM3_CH1/TIM8_BKIN, 23 PA7/SPI1_MOSI/ADC7/TIM3_CH2/TIM8_CH1N, 24 PC4/ADC14, 25 PC5/ADC15, 26 PB0/ADC8/TIM3_CH3/TIM8_CH2N, 27 PB1/ADC9/TIM3_CH4/TIM8_CH3N, 28 PB2/BOOT1, 29 PB10/I2C2_SCL/U3_TX, 30 PB11/I2C2_SDA/U3_RX, 31 VSS, 32 VDD, 33 PB12/SPI2_NSS/I2S2_WS/I2C2_SMBAI/TIM1_BKIN, 34 PB13/SPI2_SCK/I2S2_CK/TIM1_CH1N, 35 PB14/SPI2_MISO/TIM1_CH2N, 36 PB15/SPI2_MOSI/I2S2_SD/TIM1_CH3N, 37 PC6/I2S2_MCK/TIM8_CH1/SDIO_D6, 38 PC7/I2S3_MCK/TIM8_CH2/SDIO_D7, 39 PC8/TIM8_CH3/SDIO_D0, 40 PC9/TIM8_CH4/SDIO_D1, 41 PA8/TIM1_CH1/MCO, 42 PA9/U1_TX/TIM1_CH2, 43 PA10/U1_RX/TIM1_CH3, 44 PA11/CAN_RX/USBDM/TIM1_CH4, 45 PA12/CAN_TX/USBDP/TIM1_ETR, 46 PA13/JTMS/SWDIO, 47 VSS, 48 VDD, 49 PA14/JTCK/SWCLK, 50 PA15/JTDI/SPI3_NSS/I2S3_WS, 51 PC10/U4_TX/SDIO_D2, 52 PC11/U4_RX/SDIO_D3, 53 PC12/U5_TX/SDIO_CK, 54 PD2/TIM3_ETR/U5_RX/SDIO_CMD, 55 PB3/JTDO/SPI3_SCK/I2S3_CK, 56 PB4/JNTRST/SPI3_MISO, 57 PB5/I2C1_SMBA/SPI3_MOSI/I2S3_SD, 58 PB6/I2C1_SCL/TIM4_CH1, 59 PB7/I2C1_SDA/TIM4_CH2, 60 BOOT0, 61 PB8/TIM4_CH3/SDIO_D4, 62 PB9/TIM4_CH4/SDIO_D5, 63 VSS, 64 VDD

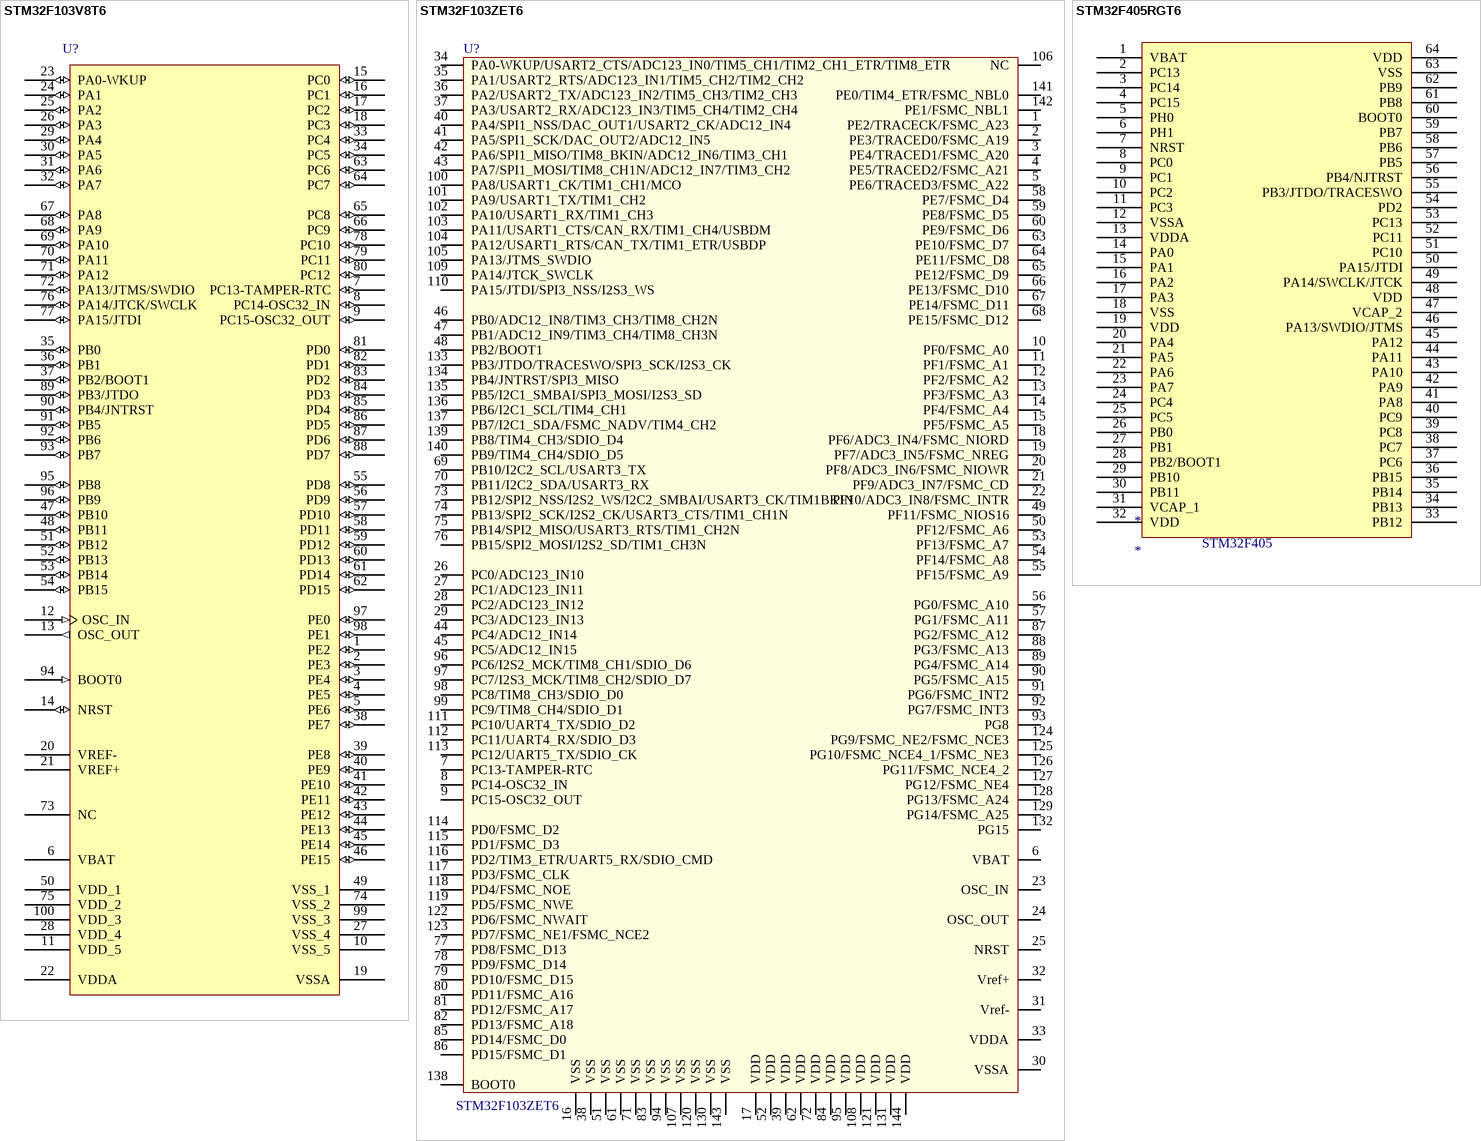
[diagram p4: symbols STM32F103V8T6 to STM32F405RGT6]

## STM32F103V8T6
designator U?
STM32 ARM-based 32-bit MCU with 64 Kbytes Flash, 100-pin LQFP, Industrial Temperature; Published: 30-May-2008; DatasheetVersion: rev6, Mar-2008; PackageVersion: Mar-2008; PackageReference: LQFP100; Publisher: Altium Limited; PackageDescription: 100-Pin Low-Profile Quad Flat Pack, 14 x 14 mm Body, 0.5 mm Pitch (LQFP100); ComponentLink1Description: Manufacturer Link; ComponentLink1URL: www.st.com/stm32; ComponentLink2Description: Datasheet; ComponentLink2URL: http://www.st.com/stonline/products/literature/ds/13587.pdf
footprint LQFP_100_M (Thin QFP, 100-Leads, Body 14x14mm, Pitch 0.5mm, IPC Low Density)
pins: 1 PE2 (io), 2 PE3 (io), 3 PE4 (io), 4 PE5 (io), 5 PE6 (io), 6 VBAT (power), 7 PC13-TAMPER-RTC (io), 8 PC14-OSC32_IN (io), 9 PC15-OSC32_OUT (io), 10 VSS_5 (power), 11 VDD_5 (power), 12 OSC_IN (in), 13 OSC_OUT (out), 14 NRST (io), 15 PC0 (io), 16 PC1 (io), 17 PC2 (io), 18 PC3 (io), 19 VSSA (power), 20 VREF- (power), 21 VREF+ (power), 22 VDDA (power), 23 PA0-WKUP (io), 24 PA1 (io), 25 PA2 (io), 26 PA3 (io), 27 VSS_4 (power), 28 VDD_4 (power), 29 PA4 (io), 30 PA5 (io), 31 PA6 (io), 32 PA7 (io), 33 PC4 (io), 34 PC5 (io), 35 PB0 (io), 36 PB1 (io), 37 PB2/BOOT1 (io), 38 PE7 (io), 39 PE8 (io), 40 PE9 (io), 41 PE10 (io), 42 PE11 (io), 43 PE12 (io), 44 PE13 (io), 45 PE14 (io), 46 PE15 (io), 47 PB10 (io), 48 PB11 (io), 49 VSS_1 (power), 50 VDD_1 (power), 51 PB12 (io), 52 PB13 (io), 53 PB14 (io), 54 PB15 (io), 55 PD8 (io), 56 PD9 (io), 57 PD10 (io), 58 PD11 (io), 59 PD12 (io), 60 PD13 (io), 61 PD14 (io), 62 PD15 (io), 63 PC6 (io), 64 PC7 (io), 65 PC8 (io), 66 PC9 (io), 67 PA8 (io), 68 PA9 (io), 69 PA10 (io), 70 PA11 (io), 71 PA12 (io), 72 PA13/JTMS/SWDIO (io), 73 NC, 74 VSS_2 (power), 75 VDD_2 (power), 76 PA14/JTCK/SWCLK (io), 77 PA15/JTDI (io), 78 PC10 (io), 79 PC11 (io), 80 PC12 (io), 81 PD0 (io), 82 PD1 (io), 83 PD2 (io), 84 PD3 (io), 85 PD4 (io), 86 PD5 (io), 87 PD6 (io), 88 PD7 (io), 89 PB3/JTDO (io), 90 PB4/JNTRST (io), 91 PB5 (io), 92 PB6 (io), 93 PB7 (io), 94 BOOT0 (in), 95 PB8 (io), 96 PB9 (io), 97 PE0 (io), 98 PE1 (io), 99 VSS_3 (power), 100 VDD_3 (power)

## STM32F103ZET6
designator U?
footprint LQFP_144_M
pins: 1 PE2/TRACECK/FSMC_A23, 2 PE3/TRACED0/FSMC_A19, 3 PE4/TRACED1/FSMC_A20, 4 PE5/TRACED2/FSMC_A21, 5 PE6/TRACED3/FSMC_A22, 6 VBAT, 7 PC13-TAMPER-RTC, 8 PC14-OSC32_IN, 9 PC15-OSC32_OUT, 10 PF0/FSMC_A0, 11 PF1/FSMC_A1, 12 PF2/FSMC_A2, 13 PF3/FSMC_A3, 14 PF4/FSMC_A4, 15 PF5/FSMC_A5, 16 VSS, 17 VDD, 18 PF6/ADC3_IN4/FSMC_NIORD, 19 PF7/ADC3_IN5/FSMC_NREG, 20 PF8/ADC3_IN6/FSMC_NIOWR, 21 PF9/ADC3_IN7/FSMC_CD, 22 PF10/ADC3_IN8/FSMC_INTR, 23 OSC_IN, 24 OSC_OUT, 25 NRST, 26 PC0/ADC123_IN10, 27 PC1/ADC123_IN11, 28 PC2/ADC123_IN12, 29 PC3/ADC123_IN13, 30 VSSA, 31 Vref-, 32 Vref+, 33 VDDA, 34 PA0-WKUP/USART2_CTS/ADC123_IN0/TIM5_CH1/TIM2_CH1_ETR/TIM8_ETR, 35 PA1/USART2_RTS/ADC123_IN1/TIM5_CH2/TIM2_CH2, 36 PA2/USART2_TX/ADC123_IN2/TIM5_CH3/TIM2_CH3, 37 PA3/USART2_RX/ADC123_IN3/TIM5_CH4/TIM2_CH4, 38 VSS, 39 VDD, 40 PA4/SPI1_NSS/DAC_OUT1/USART2_CK/ADC12_IN4, 41 PA5/SPI1_SCK/DAC_OUT2/ADC12_IN5, 42 PA6/SPI1_MISO/TIM8_BKIN/ADC12_IN6/TIM3_CH1, 43 PA7/SPI1_MOSI/TIM8_CH1N/ADC12_IN7/TIM3_CH2, 44 PC4/ADC12_IN14, 45 PC5/ADC12_IN15, 46 PB0/ADC12_IN8/TIM3_CH3/TIM8_CH2N, 47 PB1/ADC12_IN9/TIM3_CH4/TIM8_CH3N, 48 PB2/BOOT1, 49 PF11/FSMC_NIOS16, 50 PF12/FSMC_A6, 51 VSS, 52 VDD, 53 PF13/FSMC_A7, 54 PF14/FSMC_A8, 55 PF15/FSMC_A9, 56 PG0/FSMC_A10, 57 PG1/FSMC_A11, 58 PE7/FSMC_D4, 59 PE8/FSMC_D5, 60 PE9/FSMC_D6, 61 VSS, 62 VDD, 63 PE10/FSMC_D7, 64 PE11/FSMC_D8, 65 PE12/FSMC_D9, 66 PE13/FSMC_D10, 67 PE14/FSMC_D11, 68 PE15/FSMC_D12, 69 PB10/I2C2_SCL/USART3_TX, 70 PB11/I2C2_SDA/USART3_RX, 71 VSS, 72 VDD, 73 PB12/SPI2_NSS/I2S2_WS/I2C2_SMBAI/USART3_CK/TIM1BKIN, 74 PB13/SPI2_SCK/I2S2_CK/USART3_CTS/TIM1_CH1N, 75 PB14/SPI2_MISO/USART3_RTS/TIM1_CH2N, 76 PB15/SPI2_MOSI/I2S2_SD/TIM1_CH3N, 77 PD8/FSMC_D13, 78 PD9/FSMC_D14, 79 PD10/FSMC_D15, 80 PD11/FSMC_A16, 81 PD12/FSMC_A17, 82 PD13/FSMC_A18, 83 VSS, 84 VDD, 85 PD14/FSMC_D0, 86 PD15/FSMC_D1, 87 PG2/FSMC_A12, 88 PG3/FSMC_A13, 89 PG4/FSMC_A14, 90 PG5/FSMC_A15, 91 PG6/FSMC_INT2, 92 PG7/FSMC_INT3, 93 PG8, 94 VSS, 95 VDD, 96 PC6/I2S2_MCK/TIM8_CH1/SDIO_D6, 97 PC7/I2S3_MCK/TIM8_CH2/SDIO_D7, 98 PC8/TIM8_CH3/SDIO_D0, 99 PC9/TIM8_CH4/SDIO_D1, 100 PA8/USART1_CK/TIM1_CH1/MCO, 101 PA9/USART1_TX/TIM1_CH2, 102 PA10/USART1_RX/TIM1_CH3, 103 PA11/USART1_CTS/CAN_RX/TIM1_CH4/USBDM, 104 PA12/USART1_RTS/CAN_TX/TIM1_ETR/USBDP, 105 PA13/JTMS_SWDIO, 106 NC, 107 VSS, 108 VDD, 109 PA14/JTCK_SWCLK, 110 PA15/JTDI/SPI3_NSS/I2S3_WS, 111 PC10/UART4_TX/SDIO_D2, 112 PC11/UART4_RX/SDIO_D3, 113 PC12/UART5_TX/SDIO_CK, 114 PD0/FSMC_D2, 115 PD1/FSMC_D3, 116 PD2/TIM3_ETR/UART5_RX/SDIO_CMD, 117 PD3/FSMC_CLK, 118 PD4/FSMC_NOE, 119 PD5/FSMC_NWE, 120 VSS, 121 VDD, 122 PD6/FSMC_NWAIT, 123 PD7/FSMC_NE1/FSMC_NCE2, 124 PG9/FSMC_NE2/FSMC_NCE3, 125 PG10/FSMC_NCE4_1/FSMC_NE3, 126 PG11/FSMC_NCE4_2, 127 PG12/FSMC_NE4, 128 PG13/FSMC_A24, 129 PG14/FSMC_A25, 130 VSS, 131 VDD, 132 PG15, 133 PB3/JTDO/TRACESWO/SPI3_SCK/I2S3_CK, 134 PB4/JNTRST/SPI3_MISO, 135 PB5/I2C1_SMBAI/SPI3_MOSI/I2S3_SD, 136 PB6/I2C1_SCL/TIM4_CH1, 137 PB7/I2C1_SDA/FSMC_NADV/TIM4_CH2, 138 BOOT0, 139 PB8/TIM4_CH3/SDIO_D4, 140 PB9/TIM4_CH4/SDIO_D5, 141 PE0/TIM4_ETR/FSMC_NBL0, 142 PE1/FSMC_NBL1, 143 VSS, 144 VDD

## STM32F405RGT6
designator *
footprint LQFP_64_M (Thin QFP, 64-Leads, Body 10x10mm, Pitch 0.5mm, IPC Low Density)
pins: 1 VBAT, 2 PC13, 3 PC14, 4 PC15, 5 PH0, 6 PH1, 7 NRST, 8 PC0, 9 PC1, 10 PC2, 11 PC3, 12 VSSA, 13 VDDA, 14 PA0, 15 PA1, 16 PA2, 17 PA3, 18 VSS, 19 VDD, 20 PA4, 21 PA5, 22 PA6, 23 PA7, 24 PC4, 25 PC5, 26 PB0, 27 PB1, 28 PB2/BOOT1, 29 PB10, 30 PB11, 31 VCAP_1, 32 VDD, 33 PB12, 34 PB13, 35 PB14, 36 PB15, 37 PC6, 38 PC7, 39 PC8, 40 PC9, 41 PA8, 42 PA9, 43 PA10, 44 PA11, 45 PA12, 46 PA13/SWDIO/JTMS, 47 VCAP_2, 48 VDD, 49 PA14/SWCLK/JTCK, 50 PA15/JTDI, 51 PC10, 52 PC11, 53 PC13, 54 PD2, 55 PB3/JTDO/TRACESWO, 56 PB4/NJTRST, 57 PB5, 58 PB6, 59 PB7, 60 BOOT0, 61 PB8, 62 PB9, 63 VSS, 64 VDD
text: STM32F405

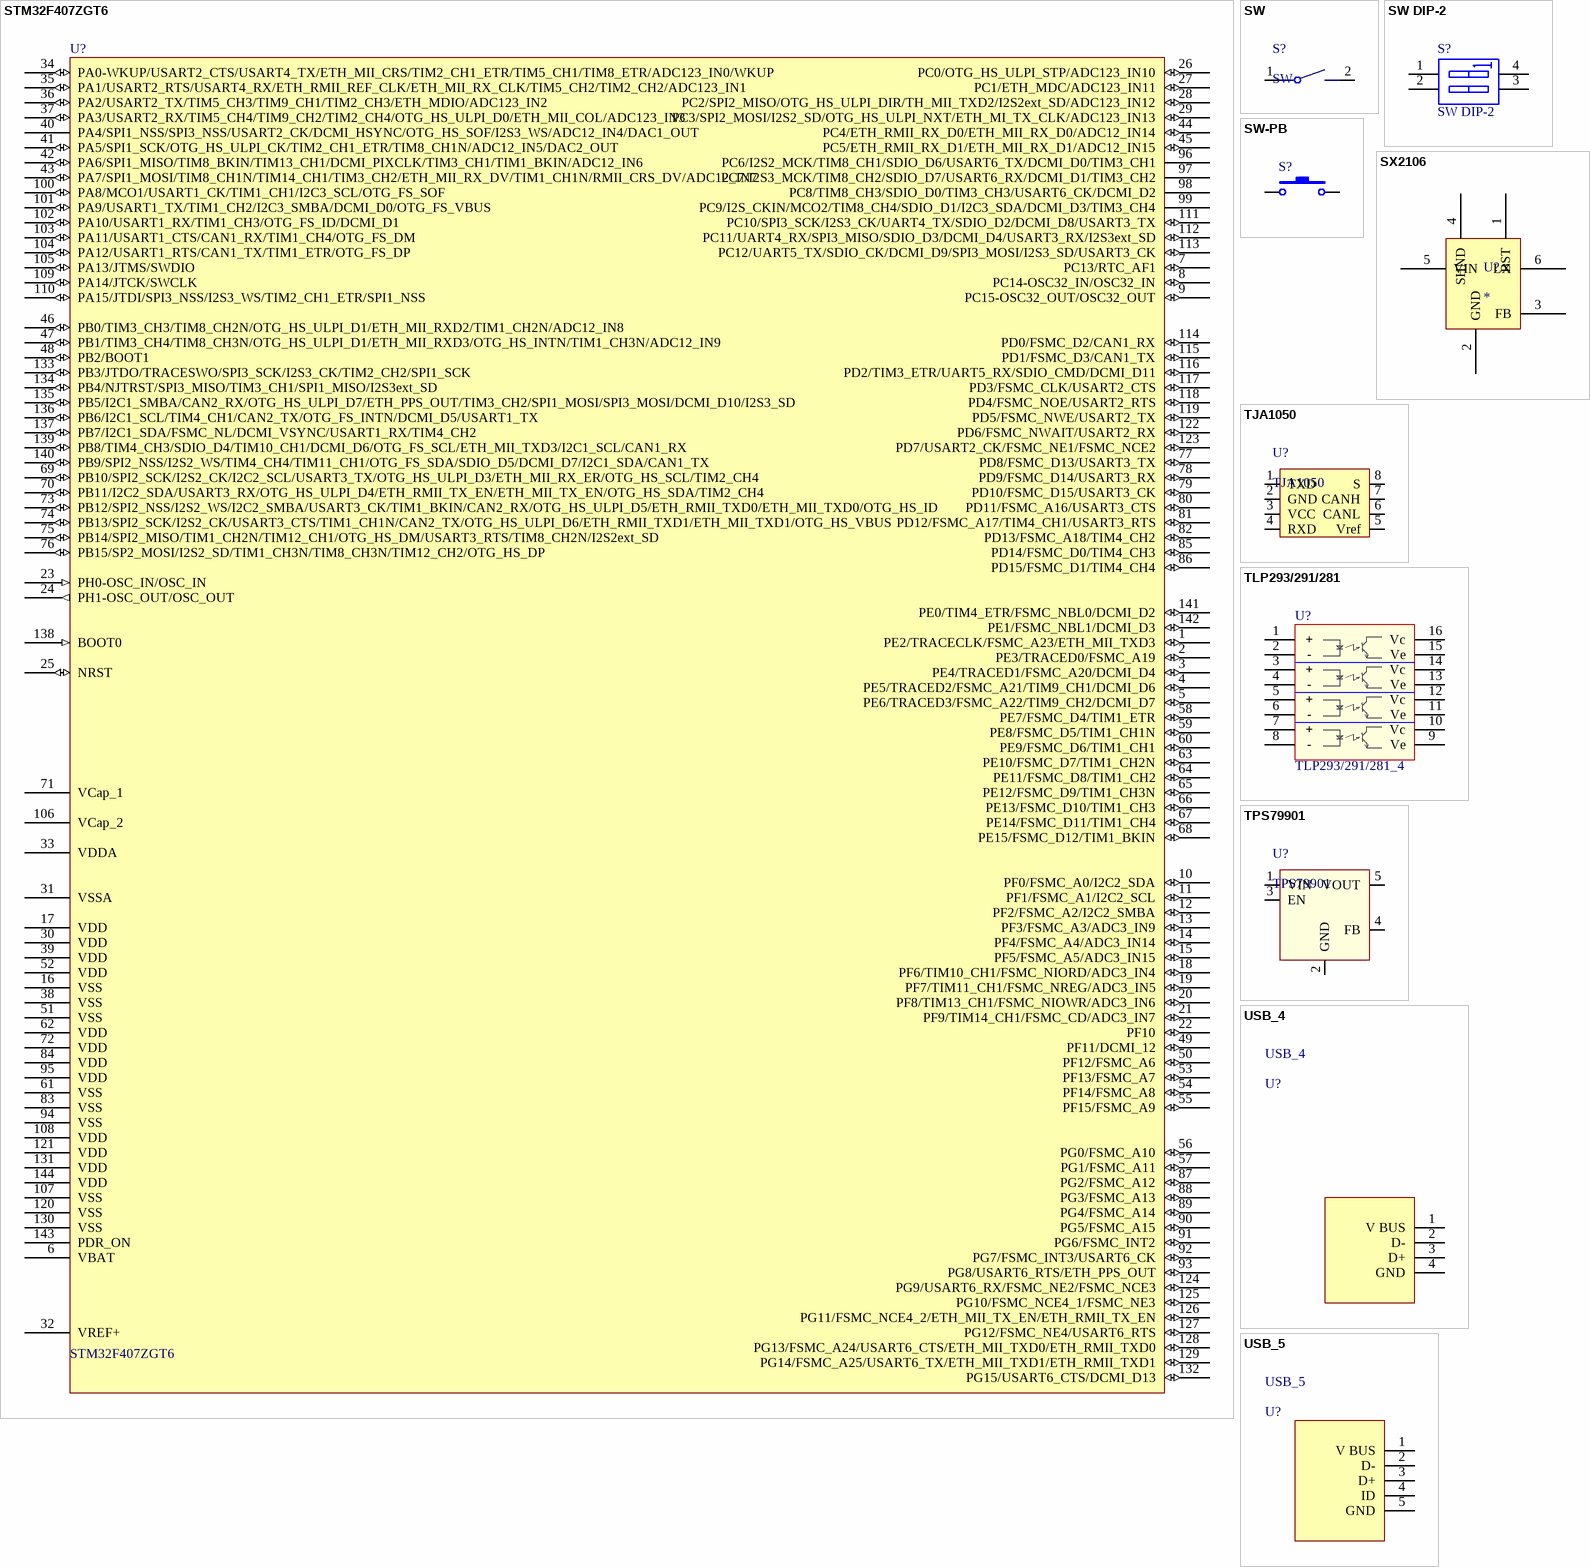
[diagram p5: symbols STM32F407ZGT6 to USB_5]

## STM32F407ZGT6
designator U?
STM32 ARM-based 32-bit MCU
footprint LQFP_144_M
pins: 1 PE2/TRACECLK/FSMC_A23/ETH_MII_TXD3 (io), 2 PE3/TRACED0/FSMC_A19 (io), 3 PE4/TRACED1/FSMC_A20/DCMI_D4 (io), 4 PE5/TRACED2/FSMC_A21/TIM9_CH1/DCMI_D6 (io), 5 PE6/TRACED3/FSMC_A22/TIM9_CH2/DCMI_D7 (io), 6 VBAT (power), 7 PC13/RTC_AF1 (io), 8 PC14-OSC32_IN/OSC32_IN (io), 9 PC15-OSC32_OUT/OSC32_OUT (io), 10 PF0/FSMC_A0/I2C2_SDA (io), 11 PF1/FSMC_A1/I2C2_SCL (io), 12 PF2/FSMC_A2/I2C2_SMBA (io), 13 PF3/FSMC_A3/ADC3_IN9 (io), 14 PF4/FSMC_A4/ADC3_IN14 (io), 15 PF5/FSMC_A5/ADC3_IN15 (io), 16 VSS (power), 17 VDD (power), 18 PF6/TIM10_CH1/FSMC_NIORD/ADC3_IN4 (io), 19 PF7/TIM11_CH1/FSMC_NREG/ADC3_IN5 (io), 20 PF8/TIM13_CH1/FSMC_NIOWR/ADC3_IN6 (io), 21 PF9/TIM14_CH1/FSMC_CD/ADC3_IN7 (io), 22 PF10 (io), 23 PH0-OSC_IN/OSC_IN (in), 24 PH1-OSC_OUT/OSC_OUT (out), 25 NRST (io), 26 PC0/OTG_HS_ULPI_STP/ADC123_IN10 (io), 27 PC1/ETH_MDC/ADC123_IN11 (io), 28 PC2/SPI2_MISO/OTG_HS_ULPI_DIR/TH_MII_TXD2/I2S2ext_SD/ADC123_IN12 (io), 29 PC3/SPI2_MOSI/I2S2_SD/OTG_HS_ULPI_NXT/ETH_MI_TX_CLK/ADC123_IN13 (io), 30 VDD (power), 31 VSSA (power), 32 VREF+ (power), 33 VDDA (power), 34 PA0-WKUP/USART2_CTS/USART4_TX/ETH_MII_CRS/TIM2_CH1_ETR/TIM5_CH1/TIM8_ETR/ADC123_IN0/WKUP (io), 35 PA1/USART2_RTS/USART4_RX/ETH_RMII_REF_CLK/ETH_MII_RX_CLK/TIM5_CH2/TIM2_CH2/ADC123_IN1 (io), 36 PA2/USART2_TX/TIM5_CH3/TIM9_CH1/TIM2_CH3/ETH_MDIO/ADC123_IN2 (io), 37 PA3/USART2_RX/TIM5_CH4/TIM9_CH2/TIM2_CH4/OTG_HS_ULPI_D0/ETH_MII_COL/ADC123_IN3 (io), 38 VSS (power), 39 VDD (power), 40 PA4/SPI1_NSS/SPI3_NSS/USART2_CK/DCMI_HSYNC/OTG_HS_SOF/I2S3_WS/ADC12_IN4/DAC1_OUT (power), 41 PA5/SPI1_SCK/OTG_HS_ULPI_CK/TIM2_CH1_ETR/TIM8_CH1N/ADC12_IN5/DAC2_OUT (io), 42 PA6/SPI1_MISO/TIM8_BKIN/TIM13_CH1/DCMI_PIXCLK/TIM3_CH1/TIM1_BKIN/ADC12_IN6 (io), 43 PA7/SPI1_MOSI/TIM8_CH1N/TIM14_CH1/TIM3_CH2/ETH_MII_RX_DV/TIM1_CH1N/RMII_CRS_DV/ADC12_IN7 (io), 44 PC4/ETH_RMII_RX_D0/ETH_MII_RX_D0/ADC12_IN14 (io), 45 PC5/ETH_RMII_RX_D1/ETH_MII_RX_D1/ADC12_IN15 (io), 46 PB0/TIM3_CH3/TIM8_CH2N/OTG_HS_ULPI_D1/ETH_MII_RXD2/TIM1_CH2N/ADC12_IN8 (io), 47 PB1/TIM3_CH4/TIM8_CH3N/OTG_HS_ULPI_D1/ETH_MII_RXD3/OTG_HS_INTN/TIM1_CH3N/ADC12_IN9 (io), 48 PB2/BOOT1 (io), 49 PF11/DCMI_12 (io), 50 PF12/FSMC_A6 (io), 51 VSS (power), 52 VDD (power), 53 PF13/FSMC_A7 (io), 54 PF14/FSMC_A8 (io), 55 PF15/FSMC_A9 (io), 56 PG0/FSMC_A10 (io), 57 PG1/FSMC_A11 (io), 58 PE7/FSMC_D4/TIM1_ETR (io), 59 PE8/FSMC_D5/TIM1_CH1N (io), 60 PE9/FSMC_D6/TIM1_CH1 (io), 61 VSS (power), 62 VDD (power), 63 PE10/FSMC_D7/TIM1_CH2N (io), 64 PE11/FSMC_D8/TIM1_CH2 (io), 65 PE12/FSMC_D9/TIM1_CH3N (io), 66 PE13/FSMC_D10/TIM1_CH3 (io), 67 PE14/FSMC_D11/TIM1_CH4 (io), 68 PE15/FSMC_D12/TIM1_BKIN (io), 69 PB10/SPI2_SCK/I2S2_CK/I2C2_SCL/USART3_TX/OTG_HS_ULPI_D3/ETH_MII_RX_ER/OTG_HS_SCL/TIM2_CH4 (io), 70 PB11/I2C2_SDA/USART3_RX/OTG_HS_ULPI_D4/ETH_RMII_TX_EN/ETH_MII_TX_EN/OTG_HS_SDA/TIM2_CH4 (io), 71 VCap_1 (power), 72 VDD (power), 73 PB12/SPI2_NSS/I2S2_WS/I2C2_SMBA/USART3_CK/TIM1_BKIN/CAN2_RX/OTG_HS_ULPI_D5/ETH_RMII_TXD0/ETH_MII_TXD0/OTG_HS_ID (io), 74 PB13/SPI2_SCK/I2S2_CK/USART3_CTS/TIM1_CH1N/CAN2_TX/OTG_HS_ULPI_D6/ETH_RMII_TXD1/ETH_MII_TXD1/OTG_HS_VBUS (io), 75 PB14/SPI2_MISO/TIM1_CH2N/TIM12_CH1/OTG_HS_DM/USART3_RTS/TIM8_CH2N/I2S2ext_SD (io), 76 PB15/SP2_MOSI/I2S2_SD/TIM1_CH3N/TIM8_CH3N/TIM12_CH2/OTG_HS_DP (io), 77 PD8/FSMC_D13/USART3_TX (io), 78 PD9/FSMC_D14/USART3_RX (io), 79 PD10/FSMC_D15/USART3_CK (io), 80 PD11/FSMC_A16/USART3_CTS (io), 81 PD12/FSMC_A17/TIM4_CH1/USART3_RTS (io), 82 PD13/FSMC_A18/TIM4_CH2 (io), 83 VSS (power), 84 VDD (power), 85 PD14/FSMC_D0/TIM4_CH3 (io), 86 PD15/FSMC_D1/TIM4_CH4 (io), 87 PG2/FSMC_A12 (io), 88 PG3/FSMC_A13 (io), 89 PG4/FSMC_A14 (io), 90 PG5/FSMC_A15 (io), 91 PG6/FSMC_INT2 (io), 92 PG7/FSMC_INT3/USART6_CK (io), 93 PG8/USART6_RTS/ETH_PPS_OUT (io), 94 VSS (power), 95 VDD (power), 96 PC6/I2S2_MCK/TIM8_CH1/SDIO_D6/USART6_TX/DCMI_D0/TIM3_CH1 (power), 97 PC7/I2S3_MCK/TIM8_CH2/SDIO_D7/USART6_RX/DCMI_D1/TIM3_CH2 (power), 98 PC8/TIM8_CH3/SDIO_D0/TIM3_CH3/USART6_CK/DCMI_D2 (power), 99 PC9/I2S_CKIN/MCO2/TIM8_CH4/SDIO_D1/I2C3_SDA/DCMI_D3/TIM3_CH4 (power), 100 PA8/MCO1/USART1_CK/TIM1_CH1/I2C3_SCL/OTG_FS_SOF (io), 101 PA9/USART1_TX/TIM1_CH2/I2C3_SMBA/DCMI_D0/OTG_FS_VBUS (io), 102 PA10/USART1_RX/TIM1_CH3/OTG_FS_ID/DCMI_D1 (io), 103 PA11/USART1_CTS/CAN1_RX/TIM1_CH4/OTG_FS_DM (io), 104 PA12/USART1_RTS/CAN1_TX/TIM1_ETR/OTG_FS_DP (io), 105 PA13/JTMS/SWDIO (io), 106 VCap_2 (power), 107 VSS (power), 108 VDD (power), 109 PA14/JTCK/SWCLK (io), 110 PA15/JTDI/SPI3_NSS/I2S3_WS/TIM2_CH1_ETR/SPI1_NSS (io), 111 PC10/SPI3_SCK/I2S3_CK/UART4_TX/SDIO_D2/DCMI_D8/USART3_TX (io), 112 PC11/UART4_RX/SPI3_MISO/SDIO_D3/DCMI_D4/USART3_RX/I2S3ext_SD (io), 113 PC12/UART5_TX/SDIO_CK/DCMI_D9/SPI3_MOSI/I2S3_SD/USART3_CK (io), 114 PD0/FSMC_D2/CAN1_RX (io), 115 PD1/FSMC_D3/CAN1_TX (io), 116 PD2/TIM3_ETR/UART5_RX/SDIO_CMD/DCMI_D11 (io), 117 PD3/FSMC_CLK/USART2_CTS (io), 118 PD4/FSMC_NOE/USART2_RTS (io), 119 PD5/FSMC_NWE/USART2_TX (io), 120 VSS (power), 121 VDD (power), 122 PD6/FSMC_NWAIT/USART2_RX (io), 123 PD7/USART2_CK/FSMC_NE1/FSMC_NCE2 (io), 124 PG9/USART6_RX/FSMC_NE2/FSMC_NCE3 (io), 125 PG10/FSMC_NCE4_1/FSMC_NE3 (io), 126 PG11/FSMC_NCE4_2/ETH_MII_TX_EN/ETH_RMII_TX_EN (io), 127 PG12/FSMC_NE4/USART6_RTS (io), 128 PG13/FSMC_A24/USART6_CTS/ETH_MII_TXD0/ETH_RMII_TXD0 (io), 129 PG14/FSMC_A25/USART6_TX/ETH_MII_TXD1/ETH_RMII_TXD1 (io), 130 VSS (power), 131 VDD (power), 132 PG15/USART6_CTS/DCMI_D13 (io), 133 PB3/JTDO/TRACESWO/SPI3_SCK/I2S3_CK/TIM2_CH2/SPI1_SCK (io), 134 PB4/NJTRST/SPI3_MISO/TIM3_CH1/SPI1_MISO/I2S3ext_SD (io), 135 PB5/I2C1_SMBA/CAN2_RX/OTG_HS_ULPI_D7/ETH_PPS_OUT/TIM3_CH2/SPI1_MOSI/SPI3_MOSI/DCMI_D10/I2S3_SD (io), 136 PB6/I2C1_SCL/TIM4_CH1/CAN2_TX/OTG_FS_INTN/DCMI_D5/USART1_TX (io), 137 PB7/I2C1_SDA/FSMC_NL/DCMI_VSYNC/USART1_RX/TIM4_CH2 (io), 138 BOOT0 (in), 139 PB8/TIM4_CH3/SDIO_D4/TIM10_CH1/DCMI_D6/OTG_FS_SCL/ETH_MII_TXD3/I2C1_SCL/CAN1_RX (io), 140 PB9/SPI2_NSS/I2S2_WS/TIM4_CH4/TIM11_CH1/OTG_FS_SDA/SDIO_D5/DCMI_D7/I2C1_SDA/CAN1_TX (io), 141 PE0/TIM4_ETR/FSMC_NBL0/DCMI_D2 (io), 142 PE1/FSMC_NBL1/DCMI_D3 (io), 143 PDR_ON (power), 144 VDD (power)
2 alternate drawings of the same symbol

## SW
designator S?
footprint SW_5.08
pins: 1 (hiz), 2 (hiz)

## SW DIP-2
designator S?
DIP Switch, 2 Position, SPST; Published: 24-Mar-1999; LatestRevisionDate: 17-Jul-2002; LatestRevisionNote: Re-released for DXP Platform.; PackageReference: DIP-4; Publisher: Altium Limited
simulation model dpsw2 (Spice Subcircuit)
footprint DIP_4
footprint SW_SMD_2.54_2
pins: 1 A1, 2 A2, 3 B2, 4 B1

## SW-PB
designator S?
Switch; Published: 24-Mar-1999; LatestRevisionDate: 17-Jul-2002; LatestRevisionNote: Re-released for DXP Platform.; PackageReference: SPST-2; Publisher: Altium Limited; PackageDescription: Switch; 2 Leads
footprint SW_SMD
footprint SW_6* 6
pins: 1, 2

## SX2106
designator U?
pins: 1 BST, 2 GND, 3 FB, 4 SHND, 5 VIN, 6 LX

## TJA1050
designator U?
footprint SOP_8
pins: 1 TXD, 2 GND, 3 VCC, 4 RXD, 5 Vref, 6 CANL, 7 CANH, 8 S

## TLP293/291/281
designator U?, comment TLP293/291/281_4
footprint SOP_16
pins: 1 ＋, 2 －, 3 ＋, 4 －, 5 ＋, 6 －, 7 ＋, 8 －, 9 Ve, 10 Vc, 11 Ve, 12 Vc, 13 Ve, 14 Vc, 15 Ve, 16 Vc

## TPS79901
designator U?
footprint SOT_23_5
pins: 1 VIN, 2 GND, 3 EN, 4 FB, 5 VOUT

## USB_4
designator U?
footprint HDR_USB_MINI
pins: 1 V BUS (power), 2 D-, 3 D+, 4 GND (power)

## USB_5
designator U?
footprint HDR_USB_MINI
pins: 1 V BUS, 2 D-, 3 D+, 4 ID, 5 GND

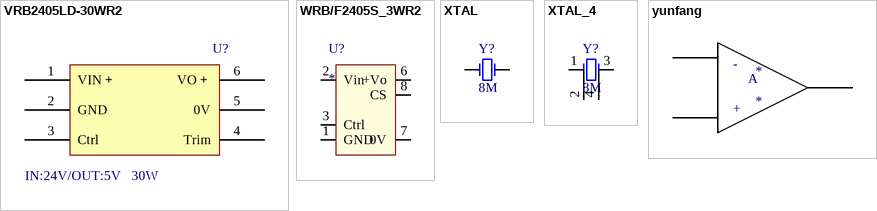
[diagram p6: symbols VRB2405LD-30WR2 to yunfang]

## VRB2405LD-30WR2
designator U?  value IN:24V/OUT:5V   30W  (hidden comment: VRB2405LD-30WR2)
ISOLATED DC/DC CONVERTER 24V to 5V; Company: MORNSUN; DeviceName: SRB2405LD
footprint VRB2405LD (MORNSUN    ISOLATED DC/DC CONVERTER 24V to 5V)
pins: 1 VIN＋, 2 GND, 3 Ctrl, 4 Trim, 5 0V, 6 VO＋

## WRB/F2405S_3WR2
designator U?
footprint WRB/F2405-3WR2
pins: 1 GND (power), 2 Vin (power), 3 Ctrl (power), 6 +Vo (power), 7 0V (power), 8 CS (power)

## XTAL
designator Y?, comment 8M
Crystal Oscillator; Published: 8-Jun-2000; LatestRevisionDate: 17-Jul-2002; LatestRevisionNote: Re-released for DXP Platform.; PackageReference: R38; Publisher: Altium Limited
footprint XTAL_49S_SMD
footprint XTAL_49S_N
footprint XTAL_R38 (Crystal, Thru-Hole; 2 Leads; Body 3.1 x 8.2 mm (Dia.xH))
pins: 1 OSC1, 2 OSC2
2 alternate drawings of the same symbol

## XTAL_4
designator Y?, comment 8M
Crystal Oscillator; Published: 8-Jun-2000; LatestRevisionDate: 17-Jul-2002; LatestRevisionNote: Re-released for DXP Platform.; PackageReference: R38; Publisher: Altium Limited
footprint XTAL_3225
pins: 1 OSC1, 2, 3 OSC2, 4
2 alternate drawings of the same symbol

## yunfang
designator *
pins: 0, 1, 2
text: -; A; +